# Altium schematic symbol library burr-brown.SCHLIB: 341 symbols (part 1 of 3)
Pins are listed as number, name and electrical type; pins without a type are passive.

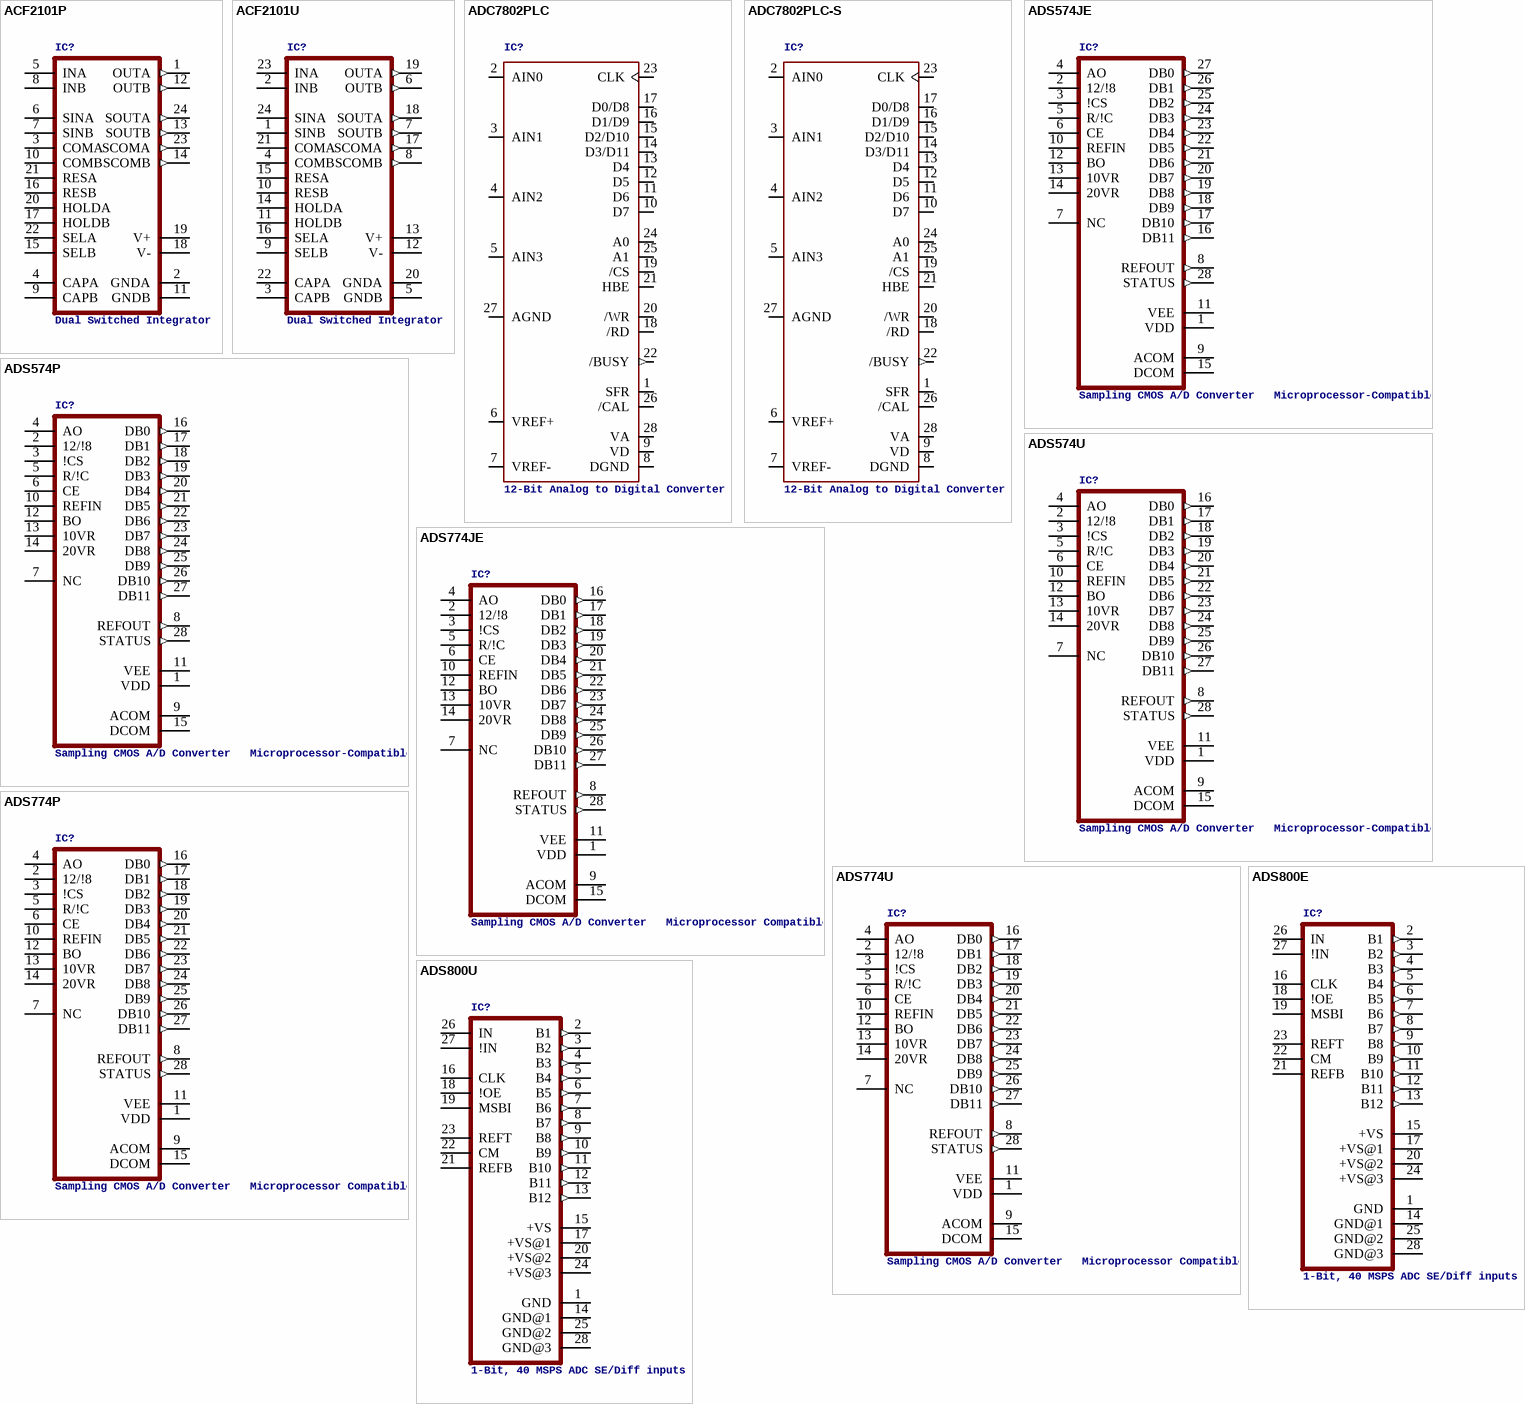
[diagram p0: symbols ACF2101P to ADS800U]

## ACF2101P
designator IC?, comment Dual Switched Integrator
OC_FARNELL: unknown; OC_NEWARK: unknown
footprint DIL24-3
pins: 1 OUTA (out), 2 GNDA (power), 3 COMA, 4 CAPA, 5 INA, 6 SINA, 7 SINB, 8 INB, 9 CAPB, 10 COMB, 11 GNDB (power), 12 OUTB (out), 13 SOUTB (out), 14 SCOMB (out), 15 SELB, 16 RESB, 17 HOLDB, 18 V- (power), 19 V+ (power), 20 HOLDA, 21 RESA, 22 SELA, 23 SCOMA (out), 24 SOUTA (out)

## ACF2101U
designator IC?, comment Dual Switched Integrator
MPN: ACF2101BU.; OC_FARNELL: 1206857; OC_NEWARK: 34R6526
footprint SO24L
pins: 1 SINB, 2 INB, 3 CAPB, 4 COMB, 5 GNDB (power), 6 OUTB (out), 7 SOUTB (out), 8 SCOMB (out), 9 SELB, 10 RESB, 11 HOLDB, 12 V- (power), 13 V+ (power), 14 HOLDA, 15 RESA, 16 SELA, 17 SCOMA (out), 18 SOUTA (out), 19 OUTA (out), 20 GNDA (power), 21 COMA, 22 CAPA, 23 INA, 24 SINA

## ADC7802PLC
designator IC?, comment 12-Bit Analog to Digital Converter
OC_FARNELL: unknown; OC_NEWARK: unknown
footprint PLCC28
pins: 1 SFR, 2 AIN0, 3 AIN1, 4 AIN2, 5 AIN3, 6 VREF+, 7 VREF-, 8 DGND, 9 VD, 10 D7 (hiz), 11 D6 (hiz), 12 D5 (hiz), 13 D4 (hiz), 14 D3/D11 (hiz), 15 D2/D10 (hiz), 16 D1/D9 (hiz), 17 D0/D8 (hiz), 18 /RD, 19 /CS, 20 /WR, 21 HBE, 22 /BUSY (out), 23 CLK, 24 A0, 25 A1, 26 /CAL, 27 AGND, 28 VA

## ADC7802PLC-S
designator IC?, comment 12-Bit Analog to Digital Converter
OC_FARNELL: unknown; OC_NEWARK: unknown
footprint PLCC-S28
pins: 1 SFR, 2 AIN0, 3 AIN1, 4 AIN2, 5 AIN3, 6 VREF+, 7 VREF-, 8 DGND, 9 VD, 10 D7 (hiz), 11 D6 (hiz), 12 D5 (hiz), 13 D4 (hiz), 14 D3/D11 (hiz), 15 D2/D10 (hiz), 16 D1/D9 (hiz), 17 D0/D8 (hiz), 18 /RD, 19 /CS, 20 /WR, 21 HBE, 22 /BUSY (out), 23 CLK, 24 A0, 25 A1, 26 /CAL, 27 AGND, 28 VA

## ADS574JE
designator IC?, comment Sampling CMOS A/D Converter   Microprocessor-Compatible
MPN: ADS574JE; OC_FARNELL: 1214401; OC_NEWARK: 01M6815
footprint DIL28-3
pins: 1 VDD (power), 2 12/!8, 3 !CS, 4 AO, 5 R/!C, 6 CE, 7 NC, 8 REFOUT (out), 9 ACOM (power), 10 REFIN, 11 VEE (power), 12 BO, 13 10VR, 14 20VR, 15 DCOM (power), 16 DB11 (out), 17 DB10 (out), 18 DB9 (out), 19 DB8 (out), 20 DB7 (out), 21 DB6 (out), 22 DB5 (out), 23 DB4 (out), 24 DB3 (out), 25 DB2 (out), 26 DB1 (out), 27 DB0 (out), 28 STATUS (out)

## ADS574P
designator IC?, comment Sampling CMOS A/D Converter   Microprocessor-Compatible
MPN: ADS574JP; MF: TEXAS INSTRUMENT CONNECTORS; OC_FARNELL: 1311734; OC_NEWARK: 88K1031
footprint DIL28
pins: 1 VDD (power), 2 12/!8, 3 !CS, 4 AO, 5 R/!C, 6 CE, 7 NC, 8 REFOUT (out), 9 ACOM (power), 10 REFIN, 11 VEE (power), 12 BO, 13 10VR, 14 20VR, 15 DCOM (power), 16 DB0 (out), 17 DB1 (out), 18 DB2 (out), 19 DB3 (out), 20 DB4 (out), 21 DB5 (out), 22 DB6 (out), 23 DB7 (out), 24 DB8 (out), 25 DB9 (out), 26 DB10 (out), 27 DB11 (out), 28 STATUS (out)

## ADS574U
designator IC?, comment Sampling CMOS A/D Converter   Microprocessor-Compatible
OC_FARNELL: unknown; OC_NEWARK: unknown
footprint SO28-3
pins: 1 VDD (power), 2 12/!8, 3 !CS, 4 AO, 5 R/!C, 6 CE, 7 NC, 8 REFOUT (out), 9 ACOM (power), 10 REFIN, 11 VEE (power), 12 BO, 13 10VR, 14 20VR, 15 DCOM (power), 16 DB0 (out), 17 DB1 (out), 18 DB2 (out), 19 DB3 (out), 20 DB4 (out), 21 DB5 (out), 22 DB6 (out), 23 DB7 (out), 24 DB8 (out), 25 DB9 (out), 26 DB10 (out), 27 DB11 (out), 28 STATUS (out)

## ADS774JE
designator IC?, comment Sampling CMOS A/D Converter   Microprocessor Compatible
MPN: ADS774JE; MF: TEXAS INSTRUMENTS; OC_FARNELL: 1509506; OC_NEWARK: 74C7051
footprint DIL28-3
pins: 1 VDD (power), 2 12/!8, 3 !CS, 4 AO, 5 R/!C, 6 CE, 7 NC, 8 REFOUT (out), 9 ACOM (power), 10 REFIN, 11 VEE (power), 12 BO, 13 10VR, 14 20VR, 15 DCOM (power), 16 DB0 (out), 17 DB1 (out), 18 DB2 (out), 19 DB3 (out), 20 DB4 (out), 21 DB5 (out), 22 DB6 (out), 23 DB7 (out), 24 DB8 (out), 25 DB9 (out), 26 DB10 (out), 27 DB11 (out), 28 STATUS (out)

## ADS774P
designator IC?, comment Sampling CMOS A/D Converter   Microprocessor Compatible
MPN: ADS774JP; MF: TEXAS INSTRUMENT CONNECTORS; OC_FARNELL: 1287416; OC_NEWARK: 74C7052
footprint DIL28
pins: 1 VDD (power), 2 12/!8, 3 !CS, 4 AO, 5 R/!C, 6 CE, 7 NC, 8 REFOUT (out), 9 ACOM (power), 10 REFIN, 11 VEE (power), 12 BO, 13 10VR, 14 20VR, 15 DCOM (power), 16 DB0 (out), 17 DB1 (out), 18 DB2 (out), 19 DB3 (out), 20 DB4 (out), 21 DB5 (out), 22 DB6 (out), 23 DB7 (out), 24 DB8 (out), 25 DB9 (out), 26 DB10 (out), 27 DB11 (out), 28 STATUS (out)

## ADS774U
designator IC?, comment Sampling CMOS A/D Converter   Microprocessor Compatible
MPN: ADS774JU; OC_FARNELL: 1287417; OC_NEWARK: 25M7542
footprint SO28-3
pins: 1 VDD (power), 2 12/!8, 3 !CS, 4 AO, 5 R/!C, 6 CE, 7 NC, 8 REFOUT (out), 9 ACOM (power), 10 REFIN, 11 VEE (power), 12 BO, 13 10VR, 14 20VR, 15 DCOM (power), 16 DB0 (out), 17 DB1 (out), 18 DB2 (out), 19 DB3 (out), 20 DB4 (out), 21 DB5 (out), 22 DB6 (out), 23 DB7 (out), 24 DB8 (out), 25 DB9 (out), 26 DB10 (out), 27 DB11 (out), 28 STATUS (out)

## ADS800E
designator IC?, comment 1-Bit, 40 MSPS ADC SE/Diff inputs
OC_FARNELL: unknown; OC_NEWARK: unknown
footprint SSOP28BU
pins: 1 GND (power), 2 B1 (out), 3 B2 (out), 4 B3 (out), 5 B4 (out), 6 B5 (out), 7 B6 (out), 8 B7 (out), 9 B8 (out), 10 B9 (out), 11 B10 (out), 12 B11 (out), 13 B12 (out), 14 GND@1 (power), 15 +VS (power), 16 CLK, 17 +VS@1 (power), 18 !OE, 19 MSBI, 20 +VS@2 (power), 21 REFB, 22 CM, 23 REFT, 24 +VS@3 (power), 25 GND@2 (power), 26 IN, 27 !IN, 28 GND@3 (power)

## ADS800U
designator IC?, comment 1-Bit, 40 MSPS ADC SE/Diff inputs
MPN: ADS800U; MF: TEXAS INSTRUMENTS; OC_FARNELL: unknown; OC_NEWARK: 35C1569
footprint SO28-3
pins: 1 GND (power), 2 B1 (out), 3 B2 (out), 4 B3 (out), 5 B4 (out), 6 B5 (out), 7 B6 (out), 8 B7 (out), 9 B8 (out), 10 B9 (out), 11 B10 (out), 12 B11 (out), 13 B12 (out), 14 GND@1 (power), 15 +VS (power), 16 CLK, 17 +VS@1 (power), 18 !OE, 19 MSBI, 20 +VS@2 (power), 21 REFB, 22 CM, 23 REFT, 24 +VS@3 (power), 25 GND@2 (power), 26 IN, 27 !IN, 28 GND@3 (power)

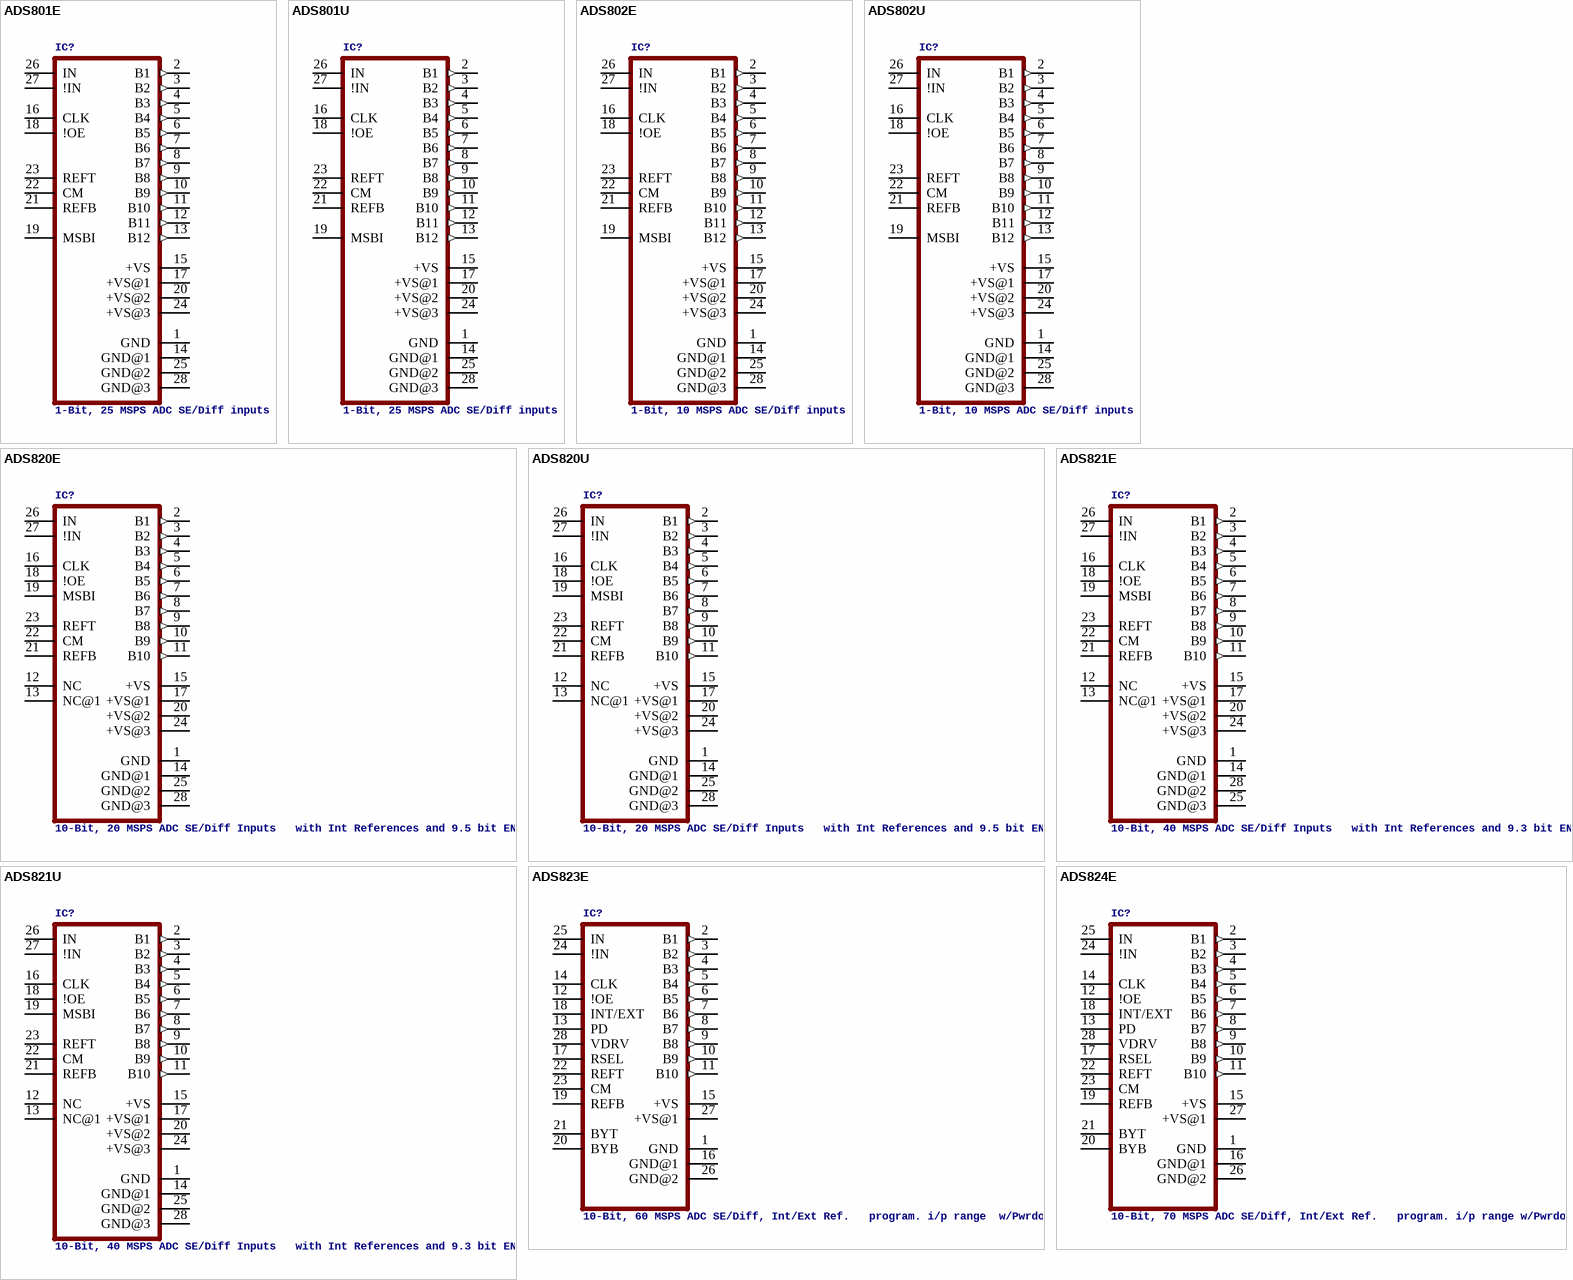
[diagram p1: symbols ADS801E to ADS824E]

## ADS801E
designator IC?, comment 1-Bit, 25 MSPS ADC SE/Diff inputs
OC_FARNELL: unknown; OC_NEWARK: unknown
footprint SSOP28BU
pins: 1 GND (power), 2 B1 (out), 3 B2 (out), 4 B3 (out), 5 B4 (out), 6 B5 (out), 7 B6 (out), 8 B7 (out), 9 B8 (out), 10 B9 (out), 11 B10 (out), 12 B11 (out), 13 B12 (out), 14 GND@1 (power), 15 +VS (power), 16 CLK, 17 +VS@1 (power), 18 !OE, 19 MSBI, 20 +VS@2 (power), 21 REFB, 22 CM, 23 REFT, 24 +VS@3 (power), 25 GND@2 (power), 26 IN, 27 !IN, 28 GND@3 (power)

## ADS801U
designator IC?, comment 1-Bit, 25 MSPS ADC SE/Diff inputs
MPN: ADS801U; MF: TEXAS INSTRUMENTS; OC_FARNELL: 4808320; OC_NEWARK: 35C1570
footprint SO28-3
pins: 1 GND (power), 2 B1 (out), 3 B2 (out), 4 B3 (out), 5 B4 (out), 6 B5 (out), 7 B6 (out), 8 B7 (out), 9 B8 (out), 10 B9 (out), 11 B10 (out), 12 B11 (out), 13 B12 (out), 14 GND@1 (power), 15 +VS (power), 16 CLK, 17 +VS@1 (power), 18 !OE, 19 MSBI, 20 +VS@2 (power), 21 REFB, 22 CM, 23 REFT, 24 +VS@3 (power), 25 GND@2 (power), 26 IN, 27 !IN, 28 GND@3 (power)

## ADS802E
designator IC?, comment 1-Bit, 10 MSPS ADC SE/Diff inputs
OC_FARNELL: unknown; OC_NEWARK: unknown
footprint SSOP28BU
pins: 1 GND (power), 2 B1 (out), 3 B2 (out), 4 B3 (out), 5 B4 (out), 6 B5 (out), 7 B6 (out), 8 B7 (out), 9 B8 (out), 10 B9 (out), 11 B10 (out), 12 B11 (out), 13 B12 (out), 14 GND@1 (power), 15 +VS (power), 16 CLK, 17 +VS@1 (power), 18 !OE, 19 MSBI, 20 +VS@2 (power), 21 REFB, 22 CM, 23 REFT, 24 +VS@3 (power), 25 GND@2 (power), 26 IN, 27 !IN, 28 GND@3 (power)

## ADS802U
designator IC?, comment 1-Bit, 10 MSPS ADC SE/Diff inputs
MPN: ADS802U; OC_FARNELL: unknown; OC_NEWARK: 16C1136
footprint SO28-3
pins: 1 GND (power), 2 B1 (out), 3 B2 (out), 4 B3 (out), 5 B4 (out), 6 B5 (out), 7 B6 (out), 8 B7 (out), 9 B8 (out), 10 B9 (out), 11 B10 (out), 12 B11 (out), 13 B12 (out), 14 GND@1 (power), 15 +VS (power), 16 CLK, 17 +VS@1 (power), 18 !OE, 19 MSBI, 20 +VS@2 (power), 21 REFB, 22 CM, 23 REFT, 24 +VS@3 (power), 25 GND@2 (power), 26 IN, 27 !IN, 28 GND@3 (power)

## ADS820E
designator IC?, comment 10-Bit, 20 MSPS ADC SE/Diff Inputs   with Int References and 9.5 bit ENOB
OC_FARNELL: unknown; OC_NEWARK: unknown
footprint SSOP28BU
pins: 1 GND (power), 2 B1 (out), 3 B2 (out), 4 B3 (out), 5 B4 (out), 6 B5 (out), 7 B6 (out), 8 B7 (out), 9 B8 (out), 10 B9 (out), 11 B10 (out), 12 NC, 13 NC@1, 14 GND@1 (power), 15 +VS (power), 16 CLK, 17 +VS@1 (power), 18 !OE, 19 MSBI, 20 +VS@2 (power), 21 REFB, 22 CM, 23 REFT, 24 +VS@3 (power), 25 GND@2 (power), 26 IN, 27 !IN, 28 GND@3 (power)

## ADS820U
designator IC?, comment 10-Bit, 20 MSPS ADC SE/Diff Inputs   with Int References and 9.5 bit ENOB
MPN: ADS820U; MF: TEXAS INSTRUMENT CONNECTORS; OC_FARNELL: 1214452; OC_NEWARK: 74C7210
footprint SO28-3
pins: 1 GND (power), 2 B1 (out), 3 B2 (out), 4 B3 (out), 5 B4 (out), 6 B5 (out), 7 B6 (out), 8 B7 (out), 9 B8 (out), 10 B9 (out), 11 B10 (out), 12 NC, 13 NC@1, 14 GND@1 (power), 15 +VS (power), 16 CLK, 17 +VS@1 (power), 18 !OE, 19 MSBI, 20 +VS@2 (power), 21 REFB, 22 CM, 23 REFT, 24 +VS@3 (power), 25 GND@2 (power), 26 IN, 27 !IN, 28 GND@3 (power)

## ADS821E
designator IC?, comment 10-Bit, 40 MSPS ADC SE/Diff Inputs   with Int References and 9.3 bit ENOB
OC_FARNELL: unknown; OC_NEWARK: unknown
footprint SSOP28BU
pins: 1 GND (power), 2 B1 (out), 3 B2 (out), 4 B3 (out), 5 B4 (out), 6 B5 (out), 7 B6 (out), 8 B7 (out), 9 B8 (out), 10 B9 (out), 11 B10 (out), 12 NC, 13 NC@1, 14 GND@1 (power), 15 +VS (power), 16 CLK, 17 +VS@1 (power), 18 !OE, 19 MSBI, 20 +VS@2 (power), 21 REFB, 22 CM, 23 REFT, 24 +VS@3 (power), 25 GND@3 (power), 26 IN, 27 !IN, 28 GND@2 (power)

## ADS821U
designator IC?, comment 10-Bit, 40 MSPS ADC SE/Diff Inputs   with Int References and 9.3 bit ENOB
MPN: ADS821U; MF: TEXAS INSTRUMENT CONNECTORS; OC_FARNELL: 1509519; OC_NEWARK: 35C1575
footprint SO28-3
pins: 1 GND (power), 2 B1 (out), 3 B2 (out), 4 B3 (out), 5 B4 (out), 6 B5 (out), 7 B6 (out), 8 B7 (out), 9 B8 (out), 10 B9 (out), 11 B10 (out), 12 NC, 13 NC@1, 14 GND@1 (power), 15 +VS (power), 16 CLK, 17 +VS@1 (power), 18 !OE, 19 MSBI, 20 +VS@2 (power), 21 REFB, 22 CM, 23 REFT, 24 +VS@3 (power), 25 GND@2 (power), 26 IN, 27 !IN, 28 GND@3 (power)

## ADS823E
designator IC?, comment 10-Bit, 60 MSPS ADC SE/Diff, Int/Ext Ref.   program. i/p range  w/Pwrdown
MPN: ADS823E; MF: TEXAS INSTRUMENTS; OC_FARNELL: unknown; OC_NEWARK: 35C1576
footprint SSOP28BU
pins: 1 GND (power), 2 B1 (out), 3 B2 (out), 4 B3 (out), 5 B4 (out), 6 B5 (out), 7 B6 (out), 8 B7 (out), 9 B8 (out), 10 B9 (out), 11 B10 (out), 12 !OE, 13 PD, 14 CLK, 15 +VS (power), 16 GND@1 (power), 17 RSEL, 18 INT/EXT, 19 REFB, 20 BYB, 21 BYT, 22 REFT, 23 CM, 24 !IN, 25 IN, 26 GND@2 (power), 27 +VS@1 (power), 28 VDRV

## ADS824E
designator IC?, comment 10-Bit, 70 MSPS ADC SE/Diff, Int/Ext Ref.   program. i/p range w/Pwrdown
OC_FARNELL: unknown; OC_NEWARK: unknown
footprint SSOP28BU
pins: 1 GND (power), 2 B1 (out), 3 B2 (out), 4 B3 (out), 5 B4 (out), 6 B5 (out), 7 B6 (out), 8 B7 (out), 9 B8 (out), 10 B9 (out), 11 B10 (out), 12 !OE, 13 PD, 14 CLK, 15 +VS (power), 16 GND@1 (power), 17 RSEL, 18 INT/EXT, 19 REFB, 20 BYB, 21 BYT, 22 REFT, 23 CM, 24 !IN, 25 IN, 26 GND@2 (power), 27 +VS@1 (power), 28 VDRV

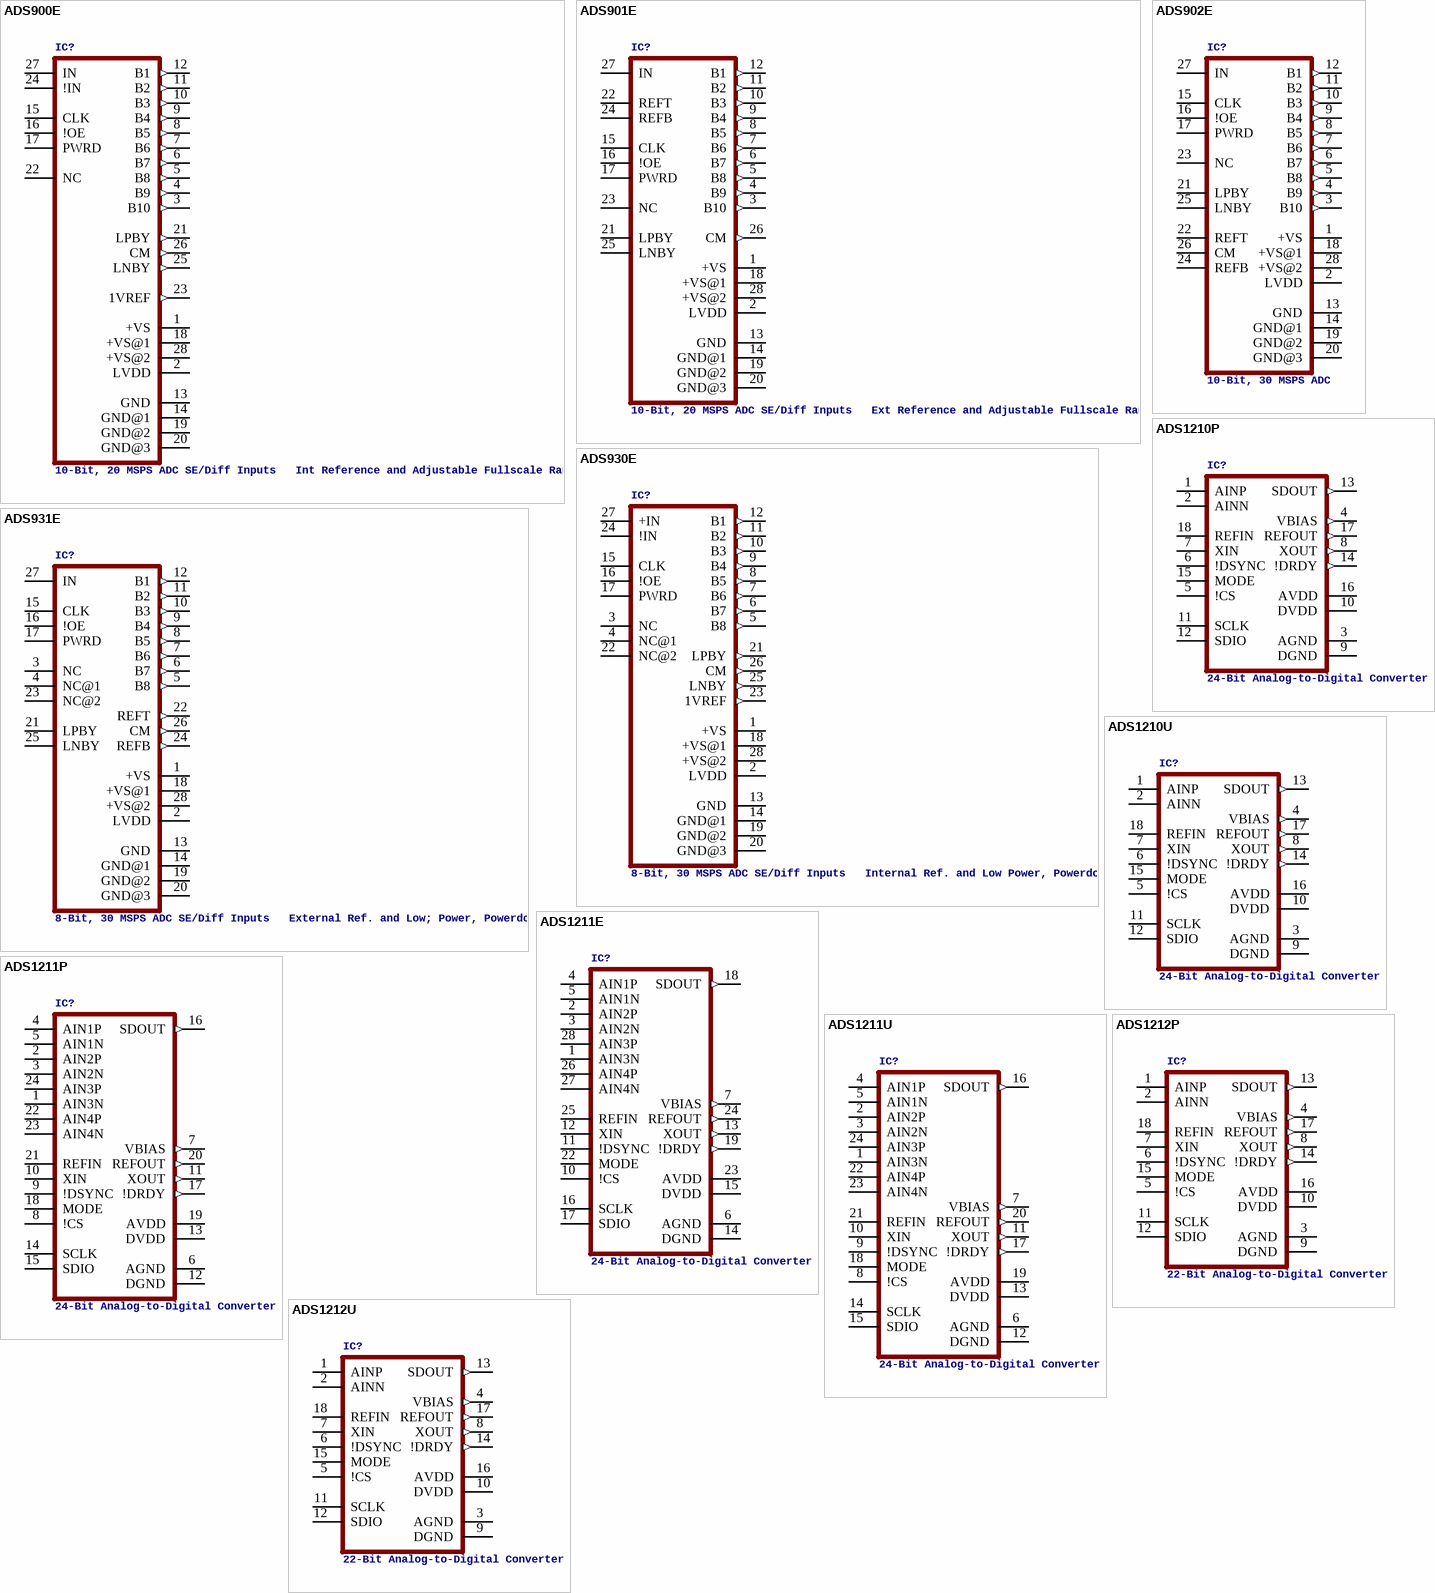
[diagram p2: symbols ADS900E to ADS1212U]

## ADS900E
designator IC?, comment 10-Bit, 20 MSPS ADC SE/Diff Inputs   Int Reference and Adjustable Fullscale Range
MPN: ADS900E; MF: TEXAS INSTRUMENT CONNECTORS; OC_FARNELL: 1459301; OC_NEWARK: 74C7264
footprint SSOP28BU
pins: 1 +VS (power), 2 LVDD (power), 3 B10 (out), 4 B9 (out), 5 B8 (out), 6 B7 (out), 7 B6 (out), 8 B5 (out), 9 B4 (out), 10 B3 (out), 11 B2 (out), 12 B1 (out), 13 GND (power), 14 GND@1 (power), 15 CLK, 16 !OE, 17 PWRD, 18 +VS@1 (power), 19 GND@2 (power), 20 GND@3 (power), 21 LPBY (out), 22 NC, 23 1VREF (out), 24 !IN, 25 LNBY (out), 26 CM (out), 27 IN, 28 +VS@2 (power)

## ADS901E
designator IC?, comment 10-Bit, 20 MSPS ADC SE/Diff Inputs   Ext Reference and Adjustable Fullscale Range
MPN: ADS901E; MF: TEXAS INSTRUMENT CONNECTORS; OC_FARNELL: 1509526; OC_NEWARK: 35C1591
footprint SSOP28BU
pins: 1 +VS (power), 2 LVDD (power), 3 B10 (out), 4 B9 (out), 5 B8 (out), 6 B7 (out), 7 B6 (out), 8 B5 (out), 9 B4 (out), 10 B3 (out), 11 B2 (out), 12 B1 (out), 13 GND (power), 14 GND@1 (power), 15 CLK, 16 !OE, 17 PWRD, 18 +VS@1 (power), 19 GND@2 (power), 20 GND@3 (power), 21 LPBY, 22 REFT, 23 NC, 24 REFB, 25 LNBY, 26 CM (out), 27 IN, 28 +VS@2 (power)

## ADS902E
designator IC?, comment 10-Bit, 30 MSPS ADC
OC_FARNELL: unknown; OC_NEWARK: unknown
footprint SSOP28BU
pins: 1 +VS (power), 2 LVDD (power), 3 B10 (out), 4 B9 (out), 5 B8 (out), 6 B7 (out), 7 B6 (out), 8 B5 (out), 9 B4 (out), 10 B3 (out), 11 B2 (out), 12 B1 (out), 13 GND (power), 14 GND@1 (power), 15 CLK, 16 !OE, 17 PWRD, 18 +VS@1 (power), 19 GND@2 (power), 20 GND@3 (power), 21 LPBY, 22 REFT, 23 NC, 24 REFB, 25 LNBY, 26 CM, 27 IN, 28 +VS@2 (power)

## ADS930E
designator IC?, comment 8-Bit, 30 MSPS ADC SE/Diff Inputs   Internal Ref. and Low Power, Powerdown
MPN: AD9280ARSZ; OC_FARNELL: 9603727; OC_NEWARK: 19M1009
footprint SSOP28BU
pins: 1 +VS (power), 2 LVDD (power), 3 NC, 4 NC@1, 5 B8 (out), 6 B7 (out), 7 B6 (out), 8 B5 (out), 9 B4 (out), 10 B3 (out), 11 B2 (out), 12 B1 (out), 13 GND (power), 14 GND@1 (power), 15 CLK, 16 !OE, 17 PWRD, 18 +VS@1 (power), 19 GND@2 (power), 20 GND@3 (power), 21 LPBY (out), 22 NC@2, 23 1VREF (out), 24 !IN, 25 LNBY (out), 26 CM (out), 27 +IN, 28 +VS@2 (power)

## ADS931E
designator IC?, comment 8-Bit, 30 MSPS ADC SE/Diff Inputs   External Ref. and Low; Power, Powerdown
MPN: ADS931E..; OC_FARNELL: 1648611; OC_NEWARK: 80P3665
footprint SSOP28BU
pins: 1 +VS (power), 2 LVDD (power), 3 NC, 4 NC@1, 5 B8 (out), 6 B7 (out), 7 B6 (out), 8 B5 (out), 9 B4 (out), 10 B3 (out), 11 B2 (out), 12 B1 (out), 13 GND (power), 14 GND@1 (power), 15 CLK, 16 !OE, 17 PWRD, 18 +VS@1 (power), 19 GND@2 (power), 20 GND@3 (power), 21 LPBY, 22 REFT (out), 23 NC@2, 24 REFB (out), 25 LNBY, 26 CM (out), 27 IN, 28 +VS@2 (power)

## ADS1210P
designator IC?, comment 24-Bit Analog-to-Digital Converter
MPN: ADS1210P; MF: TEXAS INSTRUMENTS; OC_FARNELL: 1312336; OC_NEWARK: 96K4580
footprint DIL18
pins: 1 AINP, 2 AINN, 3 AGND (power), 4 VBIAS (out), 5 !CS, 6 !DSYNC, 7 XIN, 8 XOUT (out), 9 DGND (power), 10 DVDD (power), 11 SCLK, 12 SDIO, 13 SDOUT (out), 14 !DRDY (out), 15 MODE, 16 AVDD (power), 17 REFOUT (out), 18 REFIN

## ADS1210U
designator IC?, comment 24-Bit Analog-to-Digital Converter
MPN: ADS1210U; MF: TEXAS INSTRUMENTS; OC_FARNELL: 1097511; OC_NEWARK: 74K3627
footprint SO18L
pins: 1 AINP, 2 AINN, 3 AGND (power), 4 VBIAS (out), 5 !CS, 6 !DSYNC, 7 XIN, 8 XOUT (out), 9 DGND (power), 10 DVDD (power), 11 SCLK, 12 SDIO, 13 SDOUT (out), 14 !DRDY (out), 15 MODE, 16 AVDD (power), 17 REFOUT (out), 18 REFIN

## ADS1211E
designator IC?, comment 24-Bit Analog-to-Digital Converter
MPN: ADS1211E; MF: TEXAS INSTRUMENT CONNECTORS; OC_FARNELL: unknown; OC_NEWARK: 74C6976
footprint SSOP28DL
pins: 1 AIN3N, 2 AIN2P, 3 AIN2N, 4 AIN1P, 5 AIN1N, 6 AGND (power), 7 VBIAS (out), 10 !CS, 11 !DSYNC, 12 XIN, 13 XOUT (out), 14 DGND (power), 15 DVDD (power), 16 SCLK, 17 SDIO, 18 SDOUT (out), 19 !DRDY (out), 22 MODE, 23 AVDD (power), 24 REFOUT (out), 25 REFIN, 26 AIN4P, 27 AIN4N, 28 AIN3P

## ADS1211P
designator IC?, comment 24-Bit Analog-to-Digital Converter
MPN: ADS1211P; MF: TEXAS INSTRUMENTS; OC_FARNELL: 1219430; OC_NEWARK: 96K2329
footprint DIL24-3
pins: 1 AIN3N, 2 AIN2P, 3 AIN2N, 4 AIN1P, 5 AIN1N, 6 AGND (power), 7 VBIAS (out), 8 !CS, 9 !DSYNC, 10 XIN, 11 XOUT (out), 12 DGND (power), 13 DVDD (power), 14 SCLK, 15 SDIO, 16 SDOUT (out), 17 !DRDY (out), 18 MODE, 19 AVDD (power), 20 REFOUT (out), 21 REFIN, 22 AIN4P, 23 AIN4N, 24 AIN3P

## ADS1211U
designator IC?, comment 24-Bit Analog-to-Digital Converter
MPN: ADS1211U..; MF: FARNELL; OC_FARNELL: 9324070; OC_NEWARK: 37K8944
footprint SO24L
pins: 1 AIN3N, 2 AIN2P, 3 AIN2N, 4 AIN1P, 5 AIN1N, 6 AGND (power), 7 VBIAS (out), 8 !CS, 9 !DSYNC, 10 XIN, 11 XOUT (out), 12 DGND (power), 13 DVDD (power), 14 SCLK, 15 SDIO, 16 SDOUT (out), 17 !DRDY (out), 18 MODE, 19 AVDD (power), 20 REFOUT (out), 21 REFIN, 22 AIN4P, 23 AIN4N, 24 AIN3P

## ADS1212P
designator IC?, comment 22-Bit Analog-to-Digital Converter
MPN: ADS1212P; MF: TEXAS INSTRUMENT CONNECTORS; OC_FARNELL: unknown; OC_NEWARK: 96K4581
footprint DIL18
pins: 1 AINP, 2 AINN, 3 AGND (power), 4 VBIAS (out), 5 !CS, 6 !DSYNC, 7 XIN, 8 XOUT (out), 9 DGND (power), 10 DVDD (power), 11 SCLK, 12 SDIO, 13 SDOUT (out), 14 !DRDY (out), 15 MODE, 16 AVDD (power), 17 REFOUT (out), 18 REFIN

## ADS1212U
designator IC?, comment 22-Bit Analog-to-Digital Converter
MPN: ADS1212U; OC_FARNELL: 1459252; OC_NEWARK: 61M4770
footprint SO18L
pins: 1 AINP, 2 AINN, 3 AGND (power), 4 VBIAS (out), 5 !CS, 6 !DSYNC, 7 XIN, 8 XOUT (out), 9 DGND (power), 10 DVDD (power), 11 SCLK, 12 SDIO, 13 SDOUT (out), 14 !DRDY (out), 15 MODE, 16 AVDD (power), 17 REFOUT (out), 18 REFIN

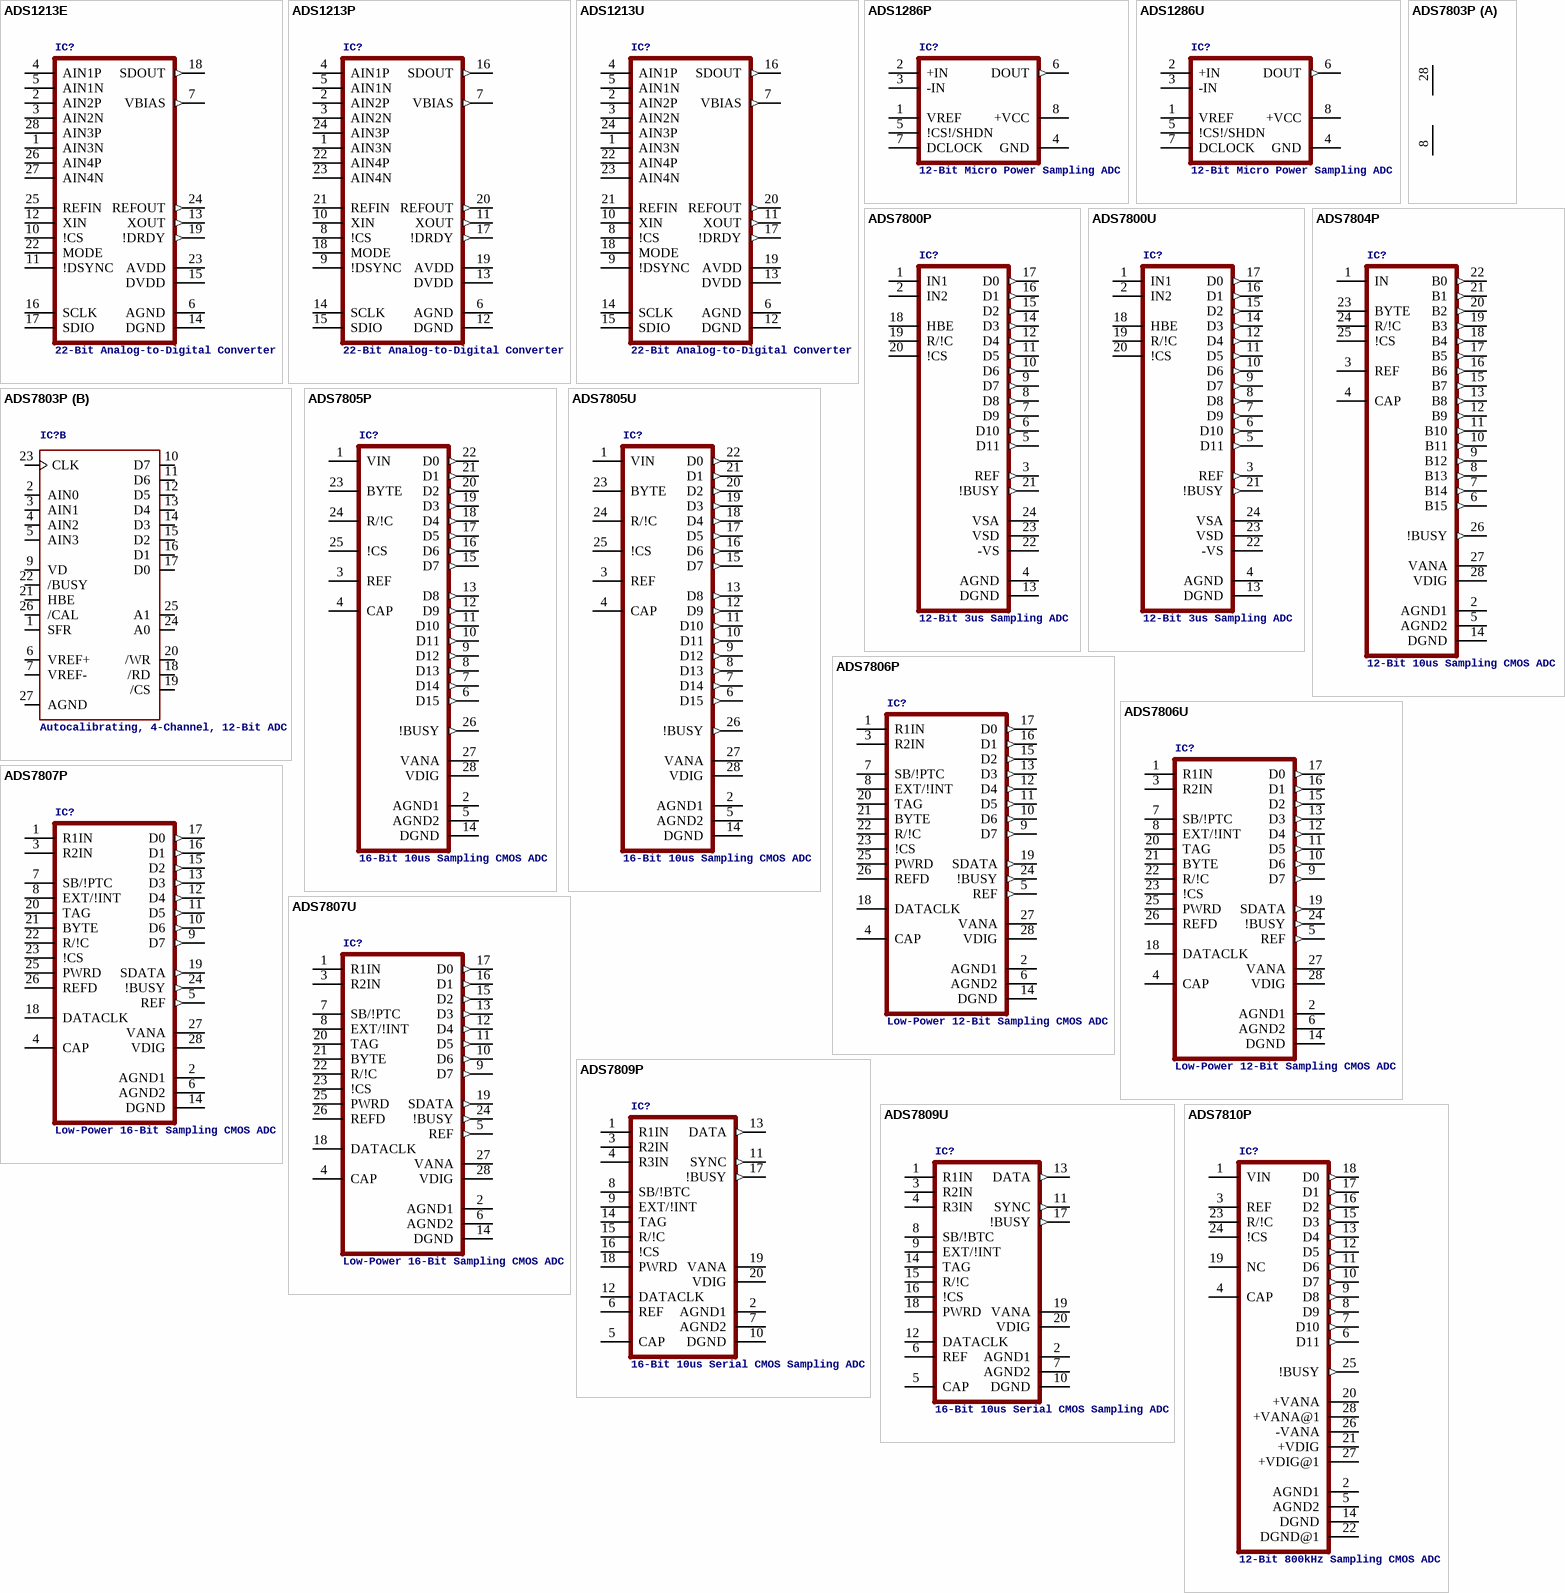
[diagram p3: symbols ADS1213E to ADS7810P]

## ADS1213E
designator IC?, comment 22-Bit Analog-to-Digital Converter
MPN: ADS1213E; MF: TEXAS INSTRUMENTS; OC_FARNELL: unknown; OC_NEWARK: 74C6980
footprint SSOP28BU
pins: 1 AIN3N, 2 AIN2P, 3 AIN2N, 4 AIN1P, 5 AIN1N, 6 AGND (power), 7 VBIAS (out), 10 !CS, 11 !DSYNC, 12 XIN, 13 XOUT (out), 14 DGND (power), 15 DVDD (power), 16 SCLK, 17 SDIO, 18 SDOUT (out), 19 !DRDY (out), 22 MODE, 23 AVDD (power), 24 REFOUT (out), 25 REFIN, 26 AIN4P, 27 AIN4N, 28 AIN3P

## ADS1213P
designator IC?, comment 22-Bit Analog-to-Digital Converter
MPN: ADS1213P; MF: TEXAS INSTRUMENTS; OC_FARNELL: unknown; OC_NEWARK: 14M9330
footprint DIL24-3
pins: 1 AIN3N, 2 AIN2P, 3 AIN2N, 4 AIN1P, 5 AIN1N, 6 AGND (power), 7 VBIAS (out), 8 !CS, 9 !DSYNC, 10 XIN, 11 XOUT (out), 12 DGND (power), 13 DVDD (power), 14 SCLK, 15 SDIO, 16 SDOUT (out), 17 !DRDY (out), 18 MODE, 19 AVDD (power), 20 REFOUT (out), 21 REFIN, 22 AIN4P, 23 AIN4N, 24 AIN3P

## ADS1213U
designator IC?, comment 22-Bit Analog-to-Digital Converter
MPN: ADS1213U; MF: TEXAS INSTRUMENTS; OC_FARNELL: 1234905; OC_NEWARK: 35C1517
footprint SO24L
pins: 1 AIN3N, 2 AIN2P, 3 AIN2N, 4 AIN1P, 5 AIN1N, 6 AGND (power), 7 VBIAS (out), 8 !CS, 9 !DSYNC, 10 XIN, 11 XOUT (out), 12 DGND (power), 13 DVDD (power), 14 SCLK, 15 SDIO, 16 SDOUT (out), 17 !DRDY (out), 18 MODE, 19 AVDD (power), 20 REFOUT (out), 21 REFIN, 22 AIN4P, 23 AIN4N, 24 AIN3P

## ADS1286P
designator IC?, comment 12-Bit Micro Power Sampling ADC
MPN: ADS1286P; MF: TEXAS INSTRUMENT CONNECTORS; OC_FARNELL: 1214453; OC_NEWARK: 74C7011
footprint DIL08
pins: 1 VREF, 2 +IN, 3 -IN, 4 GND (power), 5 !CS!/SHDN, 6 DOUT (out), 7 DCLOCK, 8 +VCC (power)

## ADS1286U
designator IC?, comment 12-Bit Micro Power Sampling ADC
MPN: ADS1286U; MF: TEXAS INSTRUMENTS; OC_FARNELL: 1106203; OC_NEWARK: 80K5544
footprint SO08
pins: 1 VREF, 2 +IN, 3 -IN, 4 GND (power), 5 !CS!/SHDN, 6 DOUT (out), 7 DCLOCK, 8 +VCC (power)

## ADS7800P
designator IC?, comment 12-Bit 3us Sampling ADC
OC_FARNELL: unknown; OC_NEWARK: unknown
footprint DIL28-3
pins: 1 IN1, 2 IN2, 3 REF (out), 4 AGND (power), 5 D11 (out), 6 D10 (out), 7 D9 (out), 8 D8 (out), 9 D7 (out), 10 D6 (out), 11 D5 (out), 12 D4 (out), 13 DGND (power), 14 D3 (out), 15 D2 (out), 16 D1 (out), 17 D0 (out), 18 HBE, 19 R/!C, 20 !CS, 21 !BUSY (out), 22 -VS (power), 23 VSD (power), 24 VSA (power)

## ADS7800U
designator IC?, comment 12-Bit 3us Sampling ADC
OC_FARNELL: unknown; OC_NEWARK: unknown
footprint SO28-3
pins: 1 IN1, 2 IN2, 3 REF (out), 4 AGND (power), 5 D11 (out), 6 D10 (out), 7 D9 (out), 8 D8 (out), 9 D7 (out), 10 D6 (out), 11 D5 (out), 12 D4 (out), 13 DGND (power), 14 D3 (out), 15 D2 (out), 16 D1 (out), 17 D0 (out), 18 HBE, 19 R/!C, 20 !CS, 21 !BUSY (out), 22 -VS (power), 23 VSD (power), 24 VSA (power)

## ADS7803P
designator IC?, comment Autocalibrating, 4-Channel, 12-Bit ADC
OC_FARNELL: unknown; OC_NEWARK: unknown
footprint DIL28
part A pins: 8 GND (power), 28 VCC (power)
part B pins: 1 SFR, 2 AIN0, 3 AIN1, 4 AIN2, 5 AIN3, 6 VREF+, 7 VREF-, 9 VD, 10 D7 (hiz), 11 D6 (hiz), 12 D5 (hiz), 13 D4 (hiz), 14 D3 (hiz), 15 D2 (hiz), 16 D1 (hiz), 17 D0 (hiz), 18 /RD, 19 /CS, 20 /WR, 21 HBE, 22 /BUSY, 23 CLK, 24 A0, 25 A1, 26 /CAL, 27 AGND (power)

## ADS7804P
designator IC?, comment 12-Bit 10us Sampling CMOS ADC
MPN: ADS7804P; MF: TEXAS INSTRUMENTS; OC_FARNELL: unknown; OC_NEWARK: 35C1525
footprint DIL28-3
pins: 1 IN, 2 AGND1 (power), 3 REF, 4 CAP, 5 AGND2 (power), 6 B15 (out), 7 B14 (out), 8 B13 (out), 9 B12 (out), 10 B11 (out), 11 B10 (out), 12 B9 (out), 13 B8 (out), 14 DGND (power), 15 B7 (out), 16 B6 (out), 17 B5 (out), 18 B4 (out), 19 B3 (out), 20 B2 (out), 21 B1 (out), 22 B0 (out), 23 BYTE, 24 R/!C, 25 !CS, 26 !BUSY (out), 27 VANA (power), 28 VDIG (power)

## ADS7805P
designator IC?, comment 16-Bit 10us Sampling CMOS ADC
MPN: ADS7805P; MF: TEXAS INSTRUMENTS; OC_FARNELL: 1212283; OC_NEWARK: 35C1528
footprint DIL28-3
pins: 1 VIN, 2 AGND1 (power), 3 REF, 4 CAP, 5 AGND2 (power), 6 D15 (out), 7 D14 (out), 8 D13 (out), 9 D12 (out), 10 D11 (out), 11 D10 (out), 12 D9 (out), 13 D8 (out), 14 DGND (power), 15 D7 (out), 16 D6 (out), 17 D5 (out), 18 D4 (out), 19 D3 (out), 20 D2 (out), 21 D1 (out), 22 D0 (out), 23 BYTE, 24 R/!C, 25 !CS, 26 !BUSY (out), 27 VANA (power), 28 VDIG (power)

## ADS7805U
designator IC?, comment 16-Bit 10us Sampling CMOS ADC
MPN: ADS7805U; MF: TEXAS INSTRUMENTS; OC_FARNELL: 1192284; OC_NEWARK: 80K5546
footprint SO28-3
pins: 1 VIN, 2 AGND1 (power), 3 REF, 4 CAP, 5 AGND2 (power), 6 D15 (out), 7 D14 (out), 8 D13 (out), 9 D12 (out), 10 D11 (out), 11 D10 (out), 12 D9 (out), 13 D8 (out), 14 DGND (power), 15 D7 (out), 16 D6 (out), 17 D5 (out), 18 D4 (out), 19 D3 (out), 20 D2 (out), 21 D1 (out), 22 D0 (out), 23 BYTE, 24 R/!C, 25 !CS, 26 !BUSY (out), 27 VANA (power), 28 VDIG (power)

## ADS7806P
designator IC?, comment Low-Power 12-Bit Sampling CMOS ADC
MPN: ADS7806PG4; OC_FARNELL: 1178440; OC_NEWARK: 81K0043
footprint DIL28-3
pins: 1 R1IN, 2 AGND1 (power), 3 R2IN, 4 CAP, 5 REF (out), 6 AGND2 (power), 7 SB/!PTC, 8 EXT/!INT, 9 D7 (out), 10 D6 (out), 11 D5 (out), 12 D4 (out), 13 D3 (out), 14 DGND (power), 15 D2 (out), 16 D1 (out), 17 D0 (out), 18 DATACLK, 19 SDATA (out), 20 TAG, 21 BYTE, 22 R/!C, 23 !CS, 24 !BUSY (out), 25 PWRD, 26 REFD, 27 VANA (power), 28 VDIG (power)

## ADS7806U
designator IC?, comment Low-Power 12-Bit Sampling CMOS ADC
OC_FARNELL: 1106202; OC_NEWARK: unknown
footprint SO28-3
pins: 1 R1IN, 2 AGND1 (power), 3 R2IN, 4 CAP, 5 REF (out), 6 AGND2 (power), 7 SB/!PTC, 8 EXT/!INT, 9 D7 (out), 10 D6 (out), 11 D5 (out), 12 D4 (out), 13 D3 (out), 14 DGND (power), 15 D2 (out), 16 D1 (out), 17 D0 (out), 18 DATACLK, 19 SDATA (out), 20 TAG, 21 BYTE, 22 R/!C, 23 !CS, 24 !BUSY (out), 25 PWRD, 26 REFD, 27 VANA (power), 28 VDIG (power)

## ADS7807P
designator IC?, comment Low-Power 16-Bit Sampling CMOS ADC
MPN: ADS7807P; MF: TEXAS INSTRUMENTS; OC_FARNELL: 1097549; OC_NEWARK: 74C7075
footprint DIL28-3
pins: 1 R1IN, 2 AGND1 (power), 3 R2IN, 4 CAP, 5 REF (out), 6 AGND2 (power), 7 SB/!PTC, 8 EXT/!INT, 9 D7 (out), 10 D6 (out), 11 D5 (out), 12 D4 (out), 13 D3 (out), 14 DGND (power), 15 D2 (out), 16 D1 (out), 17 D0 (out), 18 DATACLK, 19 SDATA (out), 20 TAG, 21 BYTE, 22 R/!C, 23 !CS, 24 !BUSY (out), 25 PWRD, 26 REFD, 27 VANA (power), 28 VDIG (power)

## ADS7807U
designator IC?, comment Low-Power 16-Bit Sampling CMOS ADC
MPN: ADS7807U; MF: TEXAS INSTRUMENTS; OC_FARNELL: 1273123; OC_NEWARK: 80K5548
footprint SO28-3
pins: 1 R1IN, 2 AGND1 (power), 3 R2IN, 4 CAP, 5 REF (out), 6 AGND2 (power), 7 SB/!PTC, 8 EXT/!INT, 9 D7 (out), 10 D6 (out), 11 D5 (out), 12 D4 (out), 13 D3 (out), 14 DGND (power), 15 D2 (out), 16 D1 (out), 17 D0 (out), 18 DATACLK, 19 SDATA (out), 20 TAG, 21 BYTE, 22 R/!C, 23 !CS, 24 !BUSY (out), 25 PWRD, 26 REFD, 27 VANA (power), 28 VDIG (power)

## ADS7809P
designator IC?, comment 16-Bit 10us Serial CMOS Sampling ADC
MPN: AD977ANZ; MF: ALTERA CORPORATION; OC_FARNELL: 1079312; OC_NEWARK: 59K7418
footprint DIL20
pins: 1 R1IN, 2 AGND1 (power), 3 R2IN, 4 R3IN, 5 CAP, 6 REF, 7 AGND2 (power), 8 SB/!BTC, 9 EXT/!INT, 10 DGND (power), 11 SYNC (out), 12 DATACLK, 13 DATA (out), 14 TAG, 15 R/!C, 16 !CS, 17 !BUSY (out), 18 PWRD, 19 VANA (power), 20 VDIG (power)

## ADS7809U
designator IC?, comment 16-Bit 10us Serial CMOS Sampling ADC
MPN: ADS7809U; MF: TEXAS INSTRUMENTS; OC_FARNELL: 1214386; OC_NEWARK: 80K5549
footprint SO20L
pins: 1 R1IN, 2 AGND1 (power), 3 R2IN, 4 R3IN, 5 CAP, 6 REF, 7 AGND2 (power), 8 SB/!BTC, 9 EXT/!INT, 10 DGND (power), 11 SYNC (out), 12 DATACLK, 13 DATA (out), 14 TAG, 15 R/!C, 16 !CS, 17 !BUSY (out), 18 PWRD, 19 VANA (power), 20 VDIG (power)

## ADS7810P
designator IC?, comment 12-Bit 800kHz Sampling CMOS ADC
OC_FARNELL: unknown; OC_NEWARK: unknown
footprint DIL28-3
pins: 1 VIN, 2 AGND1 (power), 3 REF, 4 CAP, 5 AGND2 (power), 6 D11 (out), 7 D10 (out), 8 D9 (out), 9 D8 (out), 10 D7 (out), 11 D6 (out), 12 D5 (out), 13 D4 (out), 14 DGND (power), 15 D3 (out), 16 D2 (out), 17 D1 (out), 18 D0 (out), 19 NC, 20 +VANA (power), 21 +VDIG (power), 22 DGND@1 (power), 23 R/!C, 24 !CS, 25 !BUSY (out), 26 -VANA (power), 27 +VDIG@1 (power), 28 +VANA@1 (power)

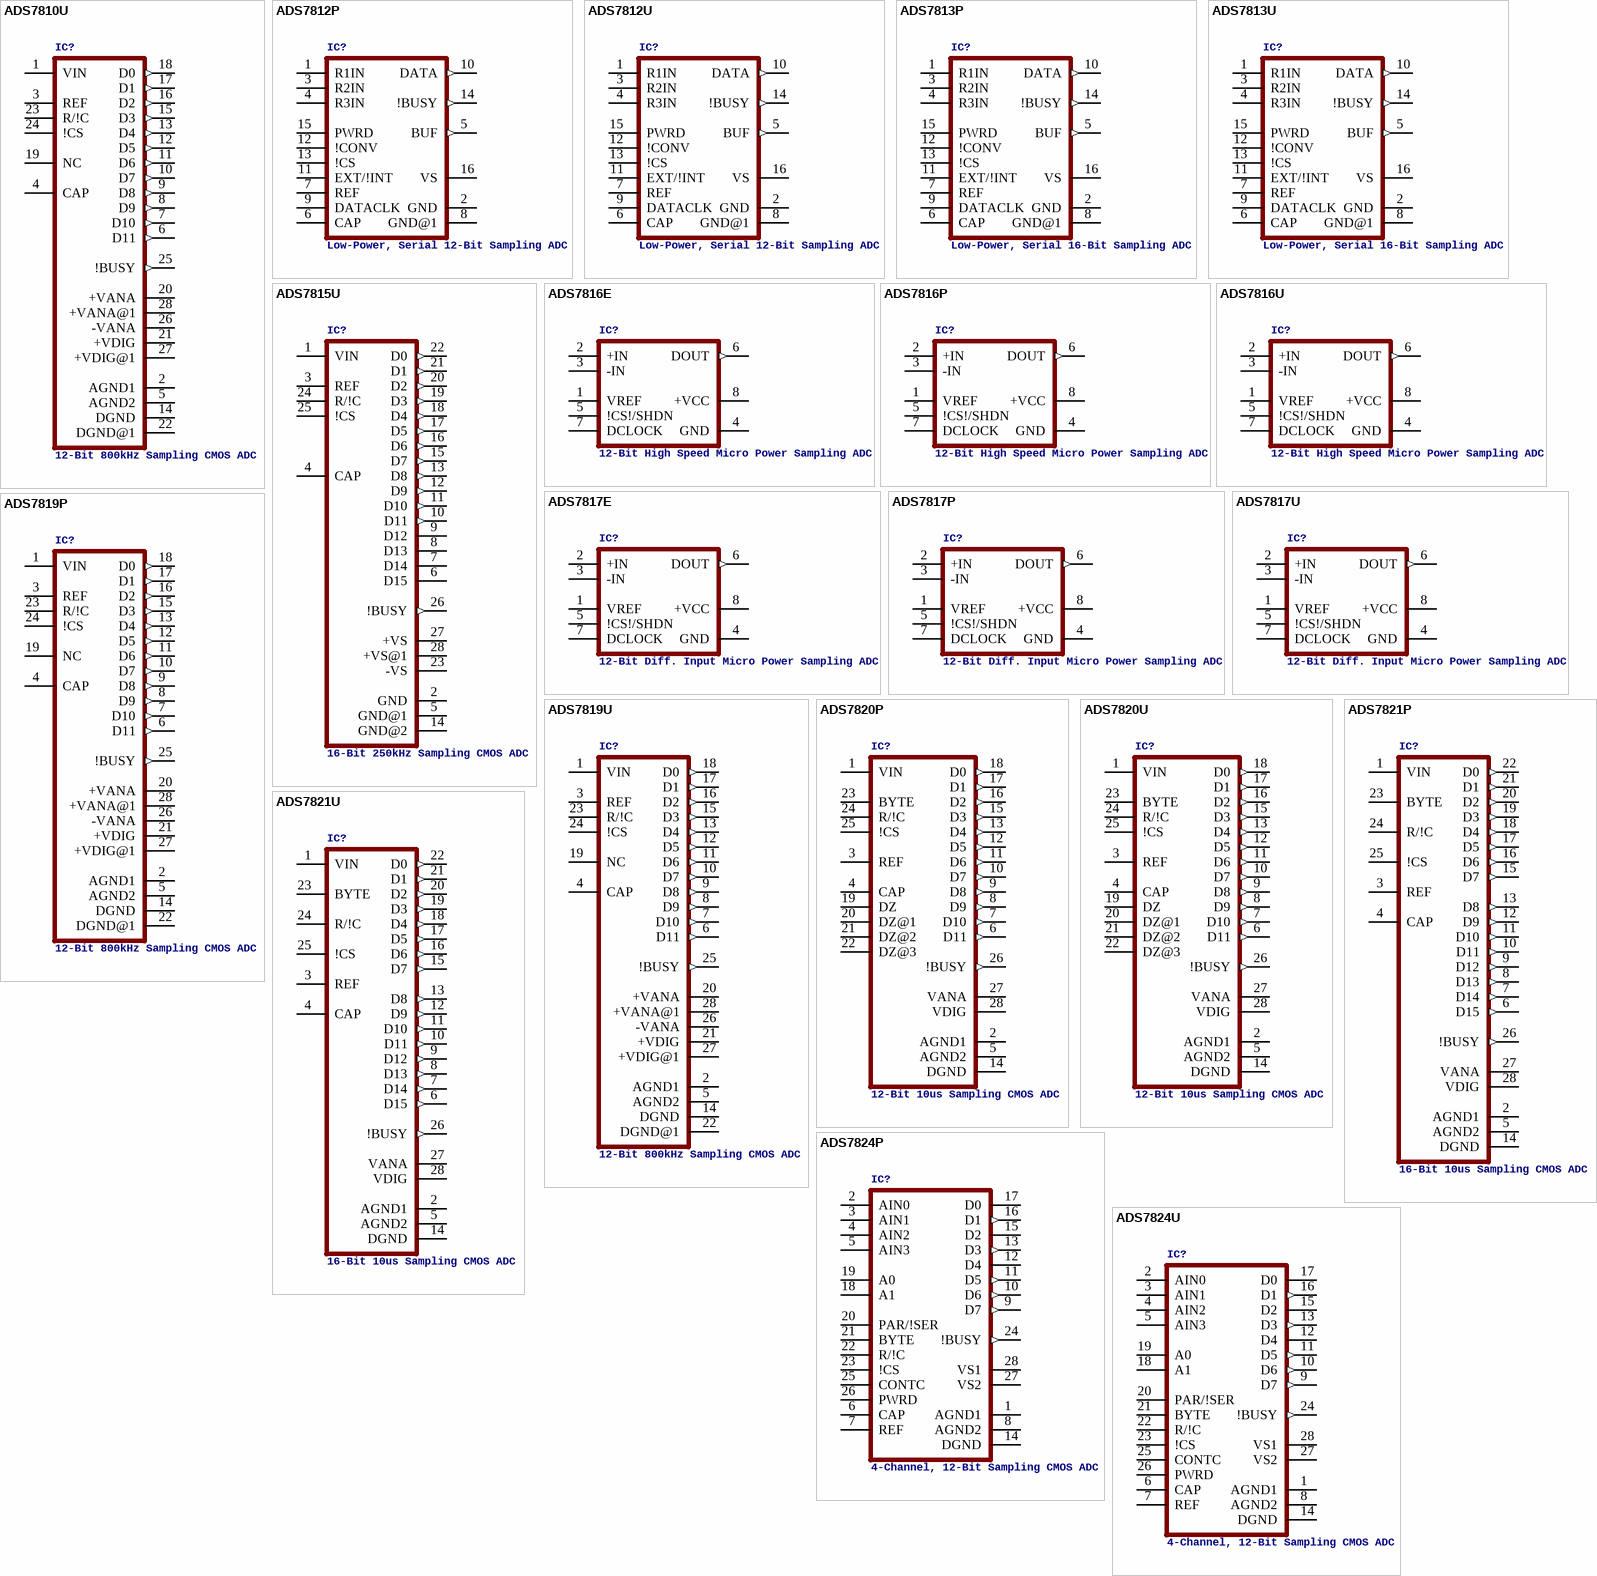
[diagram p4: symbols ADS7810U to ADS7824U]

## ADS7810U
designator IC?, comment 12-Bit 800kHz Sampling CMOS ADC
MPN: ADS7810U; MF: TEXAS INSTRUMENTS; OC_FARNELL: 1509511; OC_NEWARK: 73C9220
footprint SO28-3
pins: 1 VIN, 2 AGND1 (power), 3 REF, 4 CAP, 5 AGND2 (power), 6 D11 (out), 7 D10 (out), 8 D9 (out), 9 D8 (out), 10 D7 (out), 11 D6 (out), 12 D5 (out), 13 D4 (out), 14 DGND (power), 15 D3 (out), 16 D2 (out), 17 D1 (out), 18 D0 (out), 19 NC, 20 +VANA (power), 21 +VDIG (power), 22 DGND@1 (power), 23 R/!C, 24 !CS, 25 !BUSY (out), 26 -VANA (power), 27 +VDIG@1 (power), 28 +VANA@1 (power)

## ADS7812P
designator IC?, comment Low-Power, Serial 12-Bit Sampling ADC
MPN: ADS7812P; MF: TEXAS INSTRUMENT CONNECTORS; OC_FARNELL: 1509513; OC_NEWARK: 74C7091
footprint DIL16
pins: 1 R1IN, 2 GND (power), 3 R2IN, 4 R3IN, 5 BUF (out), 6 CAP, 7 REF, 8 GND@1 (power), 9 DATACLK, 10 DATA (out), 11 EXT/!INT, 12 !CONV, 13 !CS, 14 !BUSY (out), 15 PWRD, 16 VS (power)

## ADS7812U
designator IC?, comment Low-Power, Serial 12-Bit Sampling ADC
MPN: ADS7812U; MF: TEXAS INSTRUMENT CONNECTORS; OC_FARNELL: 1459274; OC_NEWARK: 14M8148
footprint SO16-1
pins: 1 R1IN, 2 GND (power), 3 R2IN, 4 R3IN, 5 BUF (out), 6 CAP, 7 REF, 8 GND@1 (power), 9 DATACLK, 10 DATA (out), 11 EXT/!INT, 12 !CONV, 13 !CS, 14 !BUSY (out), 15 PWRD, 16 VS (power)

## ADS7813P
designator IC?, comment Low-Power, Serial 16-Bit Sampling ADC
MPN: ADS7813P; OC_FARNELL: 1212285; OC_NEWARK: 01M6818
footprint DIL16
pins: 1 R1IN, 2 GND (power), 3 R2IN, 4 R3IN, 5 BUF (out), 6 CAP, 7 REF, 8 GND@1 (power), 9 DATACLK, 10 DATA (out), 11 EXT/!INT, 12 !CONV, 13 !CS, 14 !BUSY (out), 15 PWRD, 16 VS (power)

## ADS7813U
designator IC?, comment Low-Power, Serial 16-Bit Sampling ADC
MPN: ADS7813U; MF: TEXAS INSTRUMENTS; OC_FARNELL: 1459277; OC_NEWARK: 80K5551
footprint SO16-1
pins: 1 R1IN, 2 GND (power), 3 R2IN, 4 R3IN, 5 BUF (out), 6 CAP, 7 REF, 8 GND@1 (power), 9 DATACLK, 10 DATA (out), 11 EXT/!INT, 12 !CONV, 13 !CS, 14 !BUSY (out), 15 PWRD, 16 VS (power)

## ADS7815U
designator IC?, comment 16-Bit 250kHz Sampling CMOS ADC
MPN: ADS7815UE4; OC_FARNELL: 1206867; OC_NEWARK: 96K6229
footprint SO28-3
pins: 1 VIN, 2 GND (power), 3 REF, 4 CAP, 5 GND@1 (power), 6 D15 (power), 7 D14 (power), 8 D13 (power), 9 D12 (power), 10 D11 (out), 11 D10 (out), 12 D9 (out), 13 D8 (out), 14 GND@2 (power), 15 D7 (out), 16 D6 (out), 17 D5 (out), 18 D4 (out), 19 D3 (out), 20 D2 (out), 21 D1 (out), 22 D0 (out), 23 -VS (power), 24 R/!C, 25 !CS, 26 !BUSY (out), 27 +VS (power), 28 +VS@1 (power)

## ADS7816E
designator IC?, comment 12-Bit High Speed Micro Power Sampling ADC
MPN: ADS7816EC/250; MF: TEXAS INSTRUMENT CONNECTORS; OC_FARNELL: 1754724; OC_NEWARK: 74C7108
footprint MSOP08
pins: 1 VREF, 2 +IN, 3 -IN, 4 GND (power), 5 !CS!/SHDN, 6 DOUT (out), 7 DCLOCK, 8 +VCC (power)

## ADS7816P
designator IC?, comment 12-Bit High Speed Micro Power Sampling ADC
MPN: ADS7816P; MF: TEXAS INSTRUMENT CONNECTORS; OC_FARNELL: 1097576; OC_NEWARK: 14M9332
footprint DIL08
pins: 1 VREF, 2 +IN, 3 -IN, 4 GND (power), 5 !CS!/SHDN, 6 DOUT (out), 7 DCLOCK, 8 +VCC (power)

## ADS7816U
designator IC?, comment 12-Bit High Speed Micro Power Sampling ADC
MPN: ADS7816U; MF: TEXAS INSTRUMENTS; OC_FARNELL: 1273124; OC_NEWARK: 80K5554
footprint SO08-GW
pins: 1 VREF, 2 +IN, 3 -IN, 4 GND (power), 5 !CS!/SHDN, 6 DOUT (out), 7 DCLOCK, 8 +VCC (power)

## ADS7817E
designator IC?, comment 12-Bit Diff. Input Micro Power Sampling ADC
MPN: ADS7817E/250G4; OC_FARNELL: unknown; OC_NEWARK: 73K7081
footprint MSOP08
pins: 1 VREF, 2 +IN, 3 -IN, 4 GND (power), 5 !CS!/SHDN, 6 DOUT (out), 7 DCLOCK, 8 +VCC (power)

## ADS7817P
designator IC?, comment 12-Bit Diff. Input Micro Power Sampling ADC
OC_FARNELL: unknown; OC_NEWARK: unknown
footprint DIL08
pins: 1 VREF, 2 +IN, 3 -IN, 4 GND (power), 5 !CS!/SHDN, 6 DOUT (out), 7 DCLOCK, 8 +VCC (power)

## ADS7817U
designator IC?, comment 12-Bit Diff. Input Micro Power Sampling ADC
MPN: ADS7817UC; MF: TEXAS INSTRUMENT CONNECTORS; OC_FARNELL: 1407035; OC_NEWARK: 74C7126
footprint SO08-GW
pins: 1 VREF, 2 +IN, 3 -IN, 4 GND (power), 5 !CS!/SHDN, 6 DOUT (out), 7 DCLOCK, 8 +VCC (power)

## ADS7819P
designator IC?, comment 12-Bit 800kHz Sampling CMOS ADC
OC_FARNELL: unknown; OC_NEWARK: unknown
footprint DIL28-3
pins: 1 VIN, 2 AGND1 (power), 3 REF, 4 CAP, 5 AGND2 (power), 6 D11 (out), 7 D10 (out), 8 D9 (out), 9 D8 (out), 10 D7 (out), 11 D6 (out), 12 D5 (out), 13 D4 (out), 14 DGND (power), 15 D3 (out), 16 D2 (out), 17 D1 (out), 18 D0 (out), 19 NC, 20 +VANA (power), 21 +VDIG (power), 22 DGND@1 (power), 23 R/!C, 24 !CS, 25 !BUSY (out), 26 -VANA (power), 27 +VDIG@1 (power), 28 +VANA@1 (power)

## ADS7819U
designator IC?, comment 12-Bit 800kHz Sampling CMOS ADC
OC_FARNELL: unknown; OC_NEWARK: unknown
footprint SO28-3
pins: 1 VIN, 2 AGND1 (power), 3 REF, 4 CAP, 5 AGND2 (power), 6 D11 (out), 7 D10 (out), 8 D9 (out), 9 D8 (out), 10 D7 (out), 11 D6 (out), 12 D5 (out), 13 D4 (out), 14 DGND (power), 15 D3 (out), 16 D2 (out), 17 D1 (out), 18 D0 (out), 19 NC, 20 +VANA (power), 21 +VDIG (power), 22 DGND@1 (power), 23 R/!C, 24 !CS, 25 !BUSY (out), 26 -VANA (power), 27 +VDIG@1 (power), 28 +VANA@1 (power)

## ADS7820P
designator IC?, comment 12-Bit 10us Sampling CMOS ADC
OC_FARNELL: unknown; OC_NEWARK: unknown
footprint DIL28-3
pins: 1 VIN, 2 AGND1 (power), 3 REF, 4 CAP, 5 AGND2 (power), 6 D11 (out), 7 D10 (out), 8 D9 (out), 9 D8 (out), 10 D7 (out), 11 D6 (out), 12 D5 (out), 13 D4 (out), 14 DGND (power), 15 D3 (out), 16 D2 (out), 17 D1 (out), 18 D0 (out), 19 DZ, 20 DZ@1, 21 DZ@2, 22 DZ@3, 23 BYTE, 24 R/!C, 25 !CS, 26 !BUSY (out), 27 VANA (power), 28 VDIG (power)

## ADS7820U
designator IC?, comment 12-Bit 10us Sampling CMOS ADC
OC_FARNELL: unknown; OC_NEWARK: unknown
footprint SO28-3
pins: 1 VIN, 2 AGND1 (power), 3 REF, 4 CAP, 5 AGND2 (power), 6 D11 (out), 7 D10 (out), 8 D9 (out), 9 D8 (out), 10 D7 (out), 11 D6 (out), 12 D5 (out), 13 D4 (out), 14 DGND (power), 15 D3 (out), 16 D2 (out), 17 D1 (out), 18 D0 (out), 19 DZ, 20 DZ@1, 21 DZ@2, 22 DZ@3, 23 BYTE, 24 R/!C, 25 !CS, 26 !BUSY (out), 27 VANA (power), 28 VDIG (power)

## ADS7821P
designator IC?, comment 16-Bit 10us Sampling CMOS ADC
OC_FARNELL: unknown; OC_NEWARK: unknown
footprint DIL28-3
pins: 1 VIN, 2 AGND1 (power), 3 REF, 4 CAP, 5 AGND2 (power), 6 D15 (out), 7 D14 (out), 8 D13 (out), 9 D12 (out), 10 D11 (out), 11 D10 (out), 12 D9 (out), 13 D8 (out), 14 DGND (power), 15 D7 (out), 16 D6 (out), 17 D5 (out), 18 D4 (out), 19 D3 (out), 20 D2 (out), 21 D1 (out), 22 D0 (out), 23 BYTE, 24 R/!C, 25 !CS, 26 !BUSY (out), 27 VANA (power), 28 VDIG (power)

## ADS7821U
designator IC?, comment 16-Bit 10us Sampling CMOS ADC
OC_FARNELL: unknown; OC_NEWARK: unknown
footprint SO28-3
pins: 1 VIN, 2 AGND1 (power), 3 REF, 4 CAP, 5 AGND2 (power), 6 D15 (out), 7 D14 (out), 8 D13 (out), 9 D12 (out), 10 D11 (out), 11 D10 (out), 12 D9 (out), 13 D8 (out), 14 DGND (power), 15 D7 (out), 16 D6 (out), 17 D5 (out), 18 D4 (out), 19 D3 (out), 20 D2 (out), 21 D1 (out), 22 D0 (out), 23 BYTE, 24 R/!C, 25 !CS, 26 !BUSY (out), 27 VANA (power), 28 VDIG (power)

## ADS7824P
designator IC?, comment 4-Channel, 12-Bit Sampling CMOS ADC
MPN: ADS7824P; MF: TEXAS INSTRUMENT CONNECTORS; OC_FARNELL: 1648604; OC_NEWARK: 14M8149
footprint DIL28-3
pins: 1 AGND1 (power), 2 AIN0, 3 AIN1, 4 AIN2, 5 AIN3, 6 CAP, 7 REF, 8 AGND2 (power), 9 D7 (out), 10 D6 (out), 11 D5 (out), 12 D4, 13 D3 (out), 14 DGND (power), 15 D2, 16 D1 (out), 17 D0, 18 A1, 19 A0, 20 PAR/!SER, 21 BYTE, 22 R/!C, 23 !CS, 24 !BUSY (out), 25 CONTC, 26 PWRD, 27 VS2 (power), 28 VS1 (power)

## ADS7824U
designator IC?, comment 4-Channel, 12-Bit Sampling CMOS ADC
MPN: ADS7824U; MF: TEXAS INSTRUMENTS; OC_FARNELL: 1106198; OC_NEWARK: 35C1550
footprint SO28-3
pins: 1 AGND1 (power), 2 AIN0, 3 AIN1, 4 AIN2, 5 AIN3, 6 CAP, 7 REF, 8 AGND2 (power), 9 D7 (out), 10 D6 (out), 11 D5 (out), 12 D4, 13 D3 (out), 14 DGND (power), 15 D2, 16 D1 (out), 17 D0, 18 A1, 19 A0, 20 PAR/!SER, 21 BYTE, 22 R/!C, 23 !CS, 24 !BUSY (out), 25 CONTC, 26 PWRD, 27 VS2 (power), 28 VS1 (power)

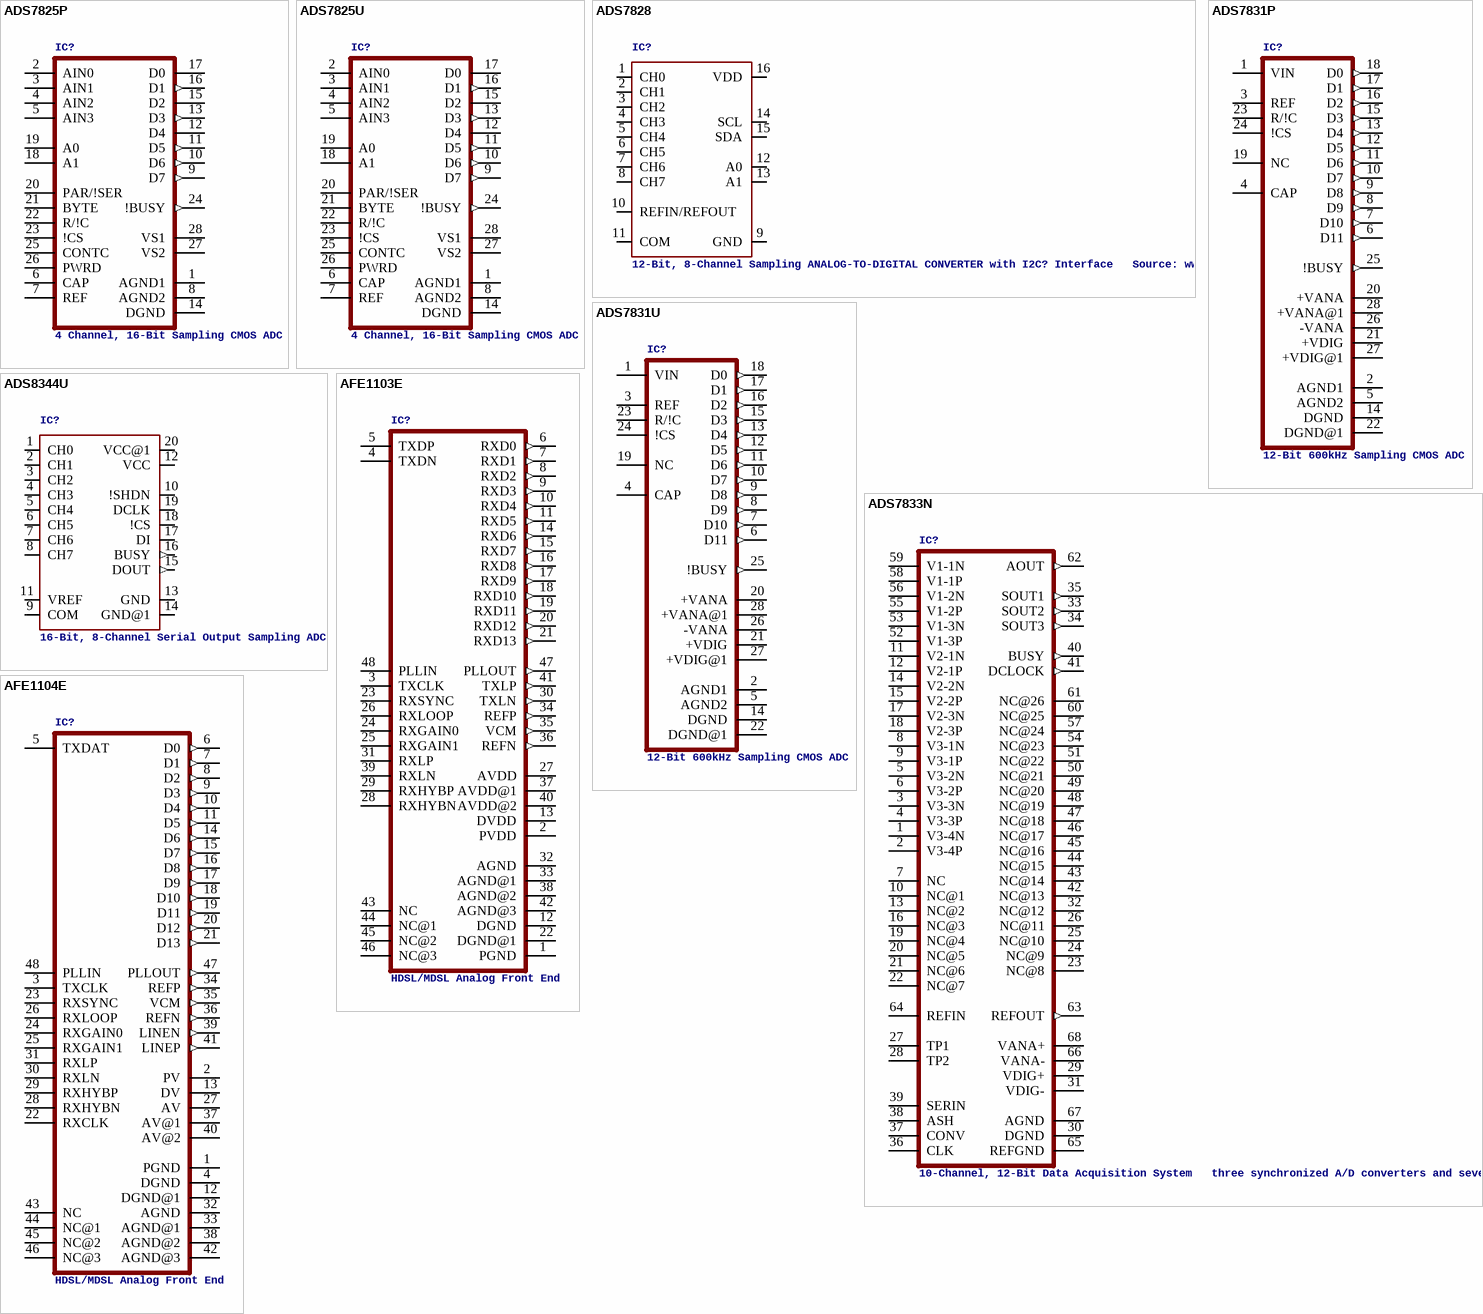
[diagram p5: symbols ADS7825P to AFE1104E]

## ADS7825P
designator IC?, comment 4 Channel, 16-Bit Sampling CMOS ADC
MPN: ADS7825P; MF: TEXAS INSTRUMENTS; OC_FARNELL: 1459283; OC_NEWARK: 14M8150
footprint DIL28-3
pins: 1 AGND1 (power), 2 AIN0, 3 AIN1, 4 AIN2, 5 AIN3, 6 CAP, 7 REF, 8 AGND2 (power), 9 D7 (out), 10 D6 (out), 11 D5 (out), 12 D4, 13 D3 (out), 14 DGND (power), 15 D2, 16 D1 (out), 17 D0, 18 A1, 19 A0, 20 PAR/!SER, 21 BYTE, 22 R/!C, 23 !CS, 24 !BUSY (out), 25 CONTC, 26 PWRD, 27 VS2 (power), 28 VS1 (power)

## ADS7825U
designator IC?, comment 4 Channel, 16-Bit Sampling CMOS ADC
MPN: ADS7825U; MF: TEXAS INSTRUMENTS; OC_FARNELL: 1097512; OC_NEWARK: 14M8151
footprint SO28-3
pins: 1 AGND1 (power), 2 AIN0, 3 AIN1, 4 AIN2, 5 AIN3, 6 CAP, 7 REF, 8 AGND2 (power), 9 D7 (out), 10 D6 (out), 11 D5 (out), 12 D4, 13 D3 (out), 14 DGND (power), 15 D2, 16 D1 (out), 17 D0, 18 A1, 19 A0, 20 PAR/!SER, 21 BYTE, 22 R/!C, 23 !CS, 24 !BUSY (out), 25 CONTC, 26 PWRD, 27 VS2 (power), 28 VS1 (power)

## ADS7828
designator IC?, comment 12-Bit, 8-Channel Sampling ANALOG-TO-DIGITAL CONVERTER with I2C? Interface   Source: www.ti.com .. ADS7828.pdf
MPN: ADS7828E/250; MF: TEXAS INSTRUMENTS; OC_FARNELL: 1470338; OC_NEWARK: 74C7158
footprint TSSOP16-PW
pins: 1 CH0, 2 CH1, 3 CH2, 4 CH3, 5 CH4, 6 CH5, 7 CH6, 8 CH7, 9 GND (power), 10 REFIN/REFOUT, 11 COM, 12 A0, 13 A1, 14 SCL, 15 SDA, 16 VDD (power)

## ADS7831P
designator IC?, comment 12-Bit 600kHz Sampling CMOS ADC
OC_FARNELL: unknown; OC_NEWARK: unknown
footprint DIL28-3
pins: 1 VIN, 2 AGND1 (power), 3 REF, 4 CAP, 5 AGND2 (power), 6 D11 (out), 7 D10 (out), 8 D9 (out), 9 D8 (out), 10 D7 (out), 11 D6 (out), 12 D5 (out), 13 D4 (out), 14 DGND (power), 15 D3 (out), 16 D2 (out), 17 D1 (out), 18 D0 (out), 19 NC, 20 +VANA (power), 21 +VDIG (power), 22 DGND@1 (power), 23 R/!C, 24 !CS, 25 !BUSY (out), 26 -VANA (power), 27 +VDIG@1 (power), 28 +VANA@1 (power)

## ADS7831U
designator IC?, comment 12-Bit 600kHz Sampling CMOS ADC
OC_FARNELL: unknown; OC_NEWARK: unknown
footprint SO28-3
pins: 1 VIN, 2 AGND1 (power), 3 REF, 4 CAP, 5 AGND2 (power), 6 D11 (out), 7 D10 (out), 8 D9 (out), 9 D8 (out), 10 D7 (out), 11 D6 (out), 12 D5 (out), 13 D4 (out), 14 DGND (power), 15 D3 (out), 16 D2 (out), 17 D1 (out), 18 D0 (out), 19 NC, 20 +VANA (power), 21 +VDIG (power), 22 DGND@1 (power), 23 R/!C, 24 !CS, 25 !BUSY (out), 26 -VANA (power), 27 +VDIG@1 (power), 28 +VANA@1 (power)

## ADS7833N
designator IC?, comment 10-Channel, 12-Bit Data Acquisition System   three synchronized A/D converters and seven S/H amplifiers
OC_FARNELL: unknown; OC_NEWARK: unknown
footprint PLCC68
pins: 1 V3-4N, 2 V3-4P, 3 V3-3N, 4 V3-3P, 5 V3-2N, 6 V3-2P, 7 NC, 8 V3-1N, 9 V3-1P, 10 NC@1, 11 V2-1N, 12 V2-1P, 13 NC@2, 14 V2-2N, 15 V2-2P, 16 NC@3, 17 V2-3N, 18 V2-3P, 19 NC@4, 20 NC@5, 21 NC@6, 22 NC@7, 23 NC@8, 24 NC@9, 25 NC@10, 26 NC@11, 27 TP1, 28 TP2, 29 VDIG+ (power), 30 DGND (power), 31 VDIG- (power), 32 NC@12, 33 SOUT2 (out), 34 SOUT3 (out), 35 SOUT1 (out), 36 CLK, 37 CONV, 38 ASH, 39 SERIN, 40 BUSY (out), 41 DCLOCK (out), 42 NC@13, 43 NC@14, 44 NC@15, 45 NC@16, 46 NC@17, 47 NC@18, 48 NC@19, 49 NC@20, 50 NC@21, 51 NC@22, 52 V1-3P, 53 V1-3N, 54 NC@23, 55 V1-2P, 56 V1-2N, 57 NC@24, 58 V1-1P, 59 V1-1N, 60 NC@25, 61 NC@26, 62 AOUT (out), 63 REFOUT (out), 64 REFIN, 65 REFGND (power), 66 VANA- (power), 67 AGND (power), 68 VANA+ (power)

## ADS8344U
designator IC?, comment 16-Bit, 8-Channel Serial Output Sampling ADC
MPN: ADS8344NB; OC_FARNELL: 1212294; OC_NEWARK: 01M6827
footprint SSOP20BU
pins: 1 CH0, 2 CH1, 3 CH2, 4 CH3, 5 CH4, 6 CH5, 7 CH6, 8 CH7, 9 COM, 10 !SHDN, 11 VREF, 12 VCC (power), 13 GND (power), 14 GND@1 (power), 15 DOUT (out), 16 BUSY (out), 17 DI, 18 !CS, 19 DCLK, 20 VCC@1 (power)

## AFE1103E
designator IC?, comment HDSL/MDSL Analog Front End
MPN: AFE1103E; MF: TEXAS INSTRUMENT CONNECTORS; OC_FARNELL: 1509833; OC_NEWARK: 74C7270
footprint SSOP48DL
pins: 1 PGND (power), 2 PVDD (power), 3 TXCLK, 4 TXDN, 5 TXDP, 6 RXD0 (out), 7 RXD1 (out), 8 RXD2 (out), 9 RXD3 (out), 10 RXD4 (out), 11 RXD5 (out), 12 DGND (power), 13 DVDD (power), 14 RXD6 (out), 15 RXD7 (out), 16 RXD8 (out), 17 RXD9 (out), 18 RXD10 (out), 19 RXD11 (out), 20 RXD12 (out), 21 RXD13 (out), 22 DGND@1 (power), 23 RXSYNC, 24 RXGAIN0, 25 RXGAIN1, 26 RXLOOP, 27 AVDD (power), 28 RXHYBN, 29 RXHYBP, 30 TXLN (out), 31 RXLP, 32 AGND (power), 33 AGND@1 (power), 34 REFP (out), 35 VCM (out), 36 REFN (out), 37 AVDD@1 (power), 38 AGND@2 (power), 39 RXLN, 40 AVDD@2 (power), 41 TXLP (out), 42 AGND@3 (power), 43 NC, 44 NC@1, 45 NC@2, 46 NC@3, 47 PLLOUT (out), 48 PLLIN

## AFE1104E
designator IC?, comment HDSL/MDSL Analog Front End
MPN: AFE1104E; MF: TEXAS INSTRUMENT CONNECTORS; OC_FARNELL: unknown; OC_NEWARK: 74C7272
footprint SSOP48DL
pins: 1 PGND (power), 2 PV (power), 3 TXCLK, 4 DGND (power), 5 TXDAT, 6 D0 (out), 7 D1 (out), 8 D2 (out), 9 D3 (out), 10 D4 (out), 11 D5 (out), 12 DGND@1 (power), 13 DV (power), 14 D6 (out), 15 D7 (out), 16 D8 (out), 17 D9 (out), 18 D10 (out), 19 D11 (out), 20 D12 (out), 21 D13 (out), 22 RXCLK, 23 RXSYNC, 24 RXGAIN0, 25 RXGAIN1, 26 RXLOOP, 27 AV (power), 28 RXHYBN, 29 RXHYBP, 30 RXLN, 31 RXLP, 32 AGND (power), 33 AGND@1 (power), 34 REFP (out), 35 VCM (out), 36 REFN (out), 37 AV@1 (power), 38 AGND@2 (power), 39 LINEN (out), 40 AV@2 (power), 41 LINEP (out), 42 AGND@3 (power), 43 NC, 44 NC@1, 45 NC@2, 46 NC@3, 47 PLLOUT (out), 48 PLLIN

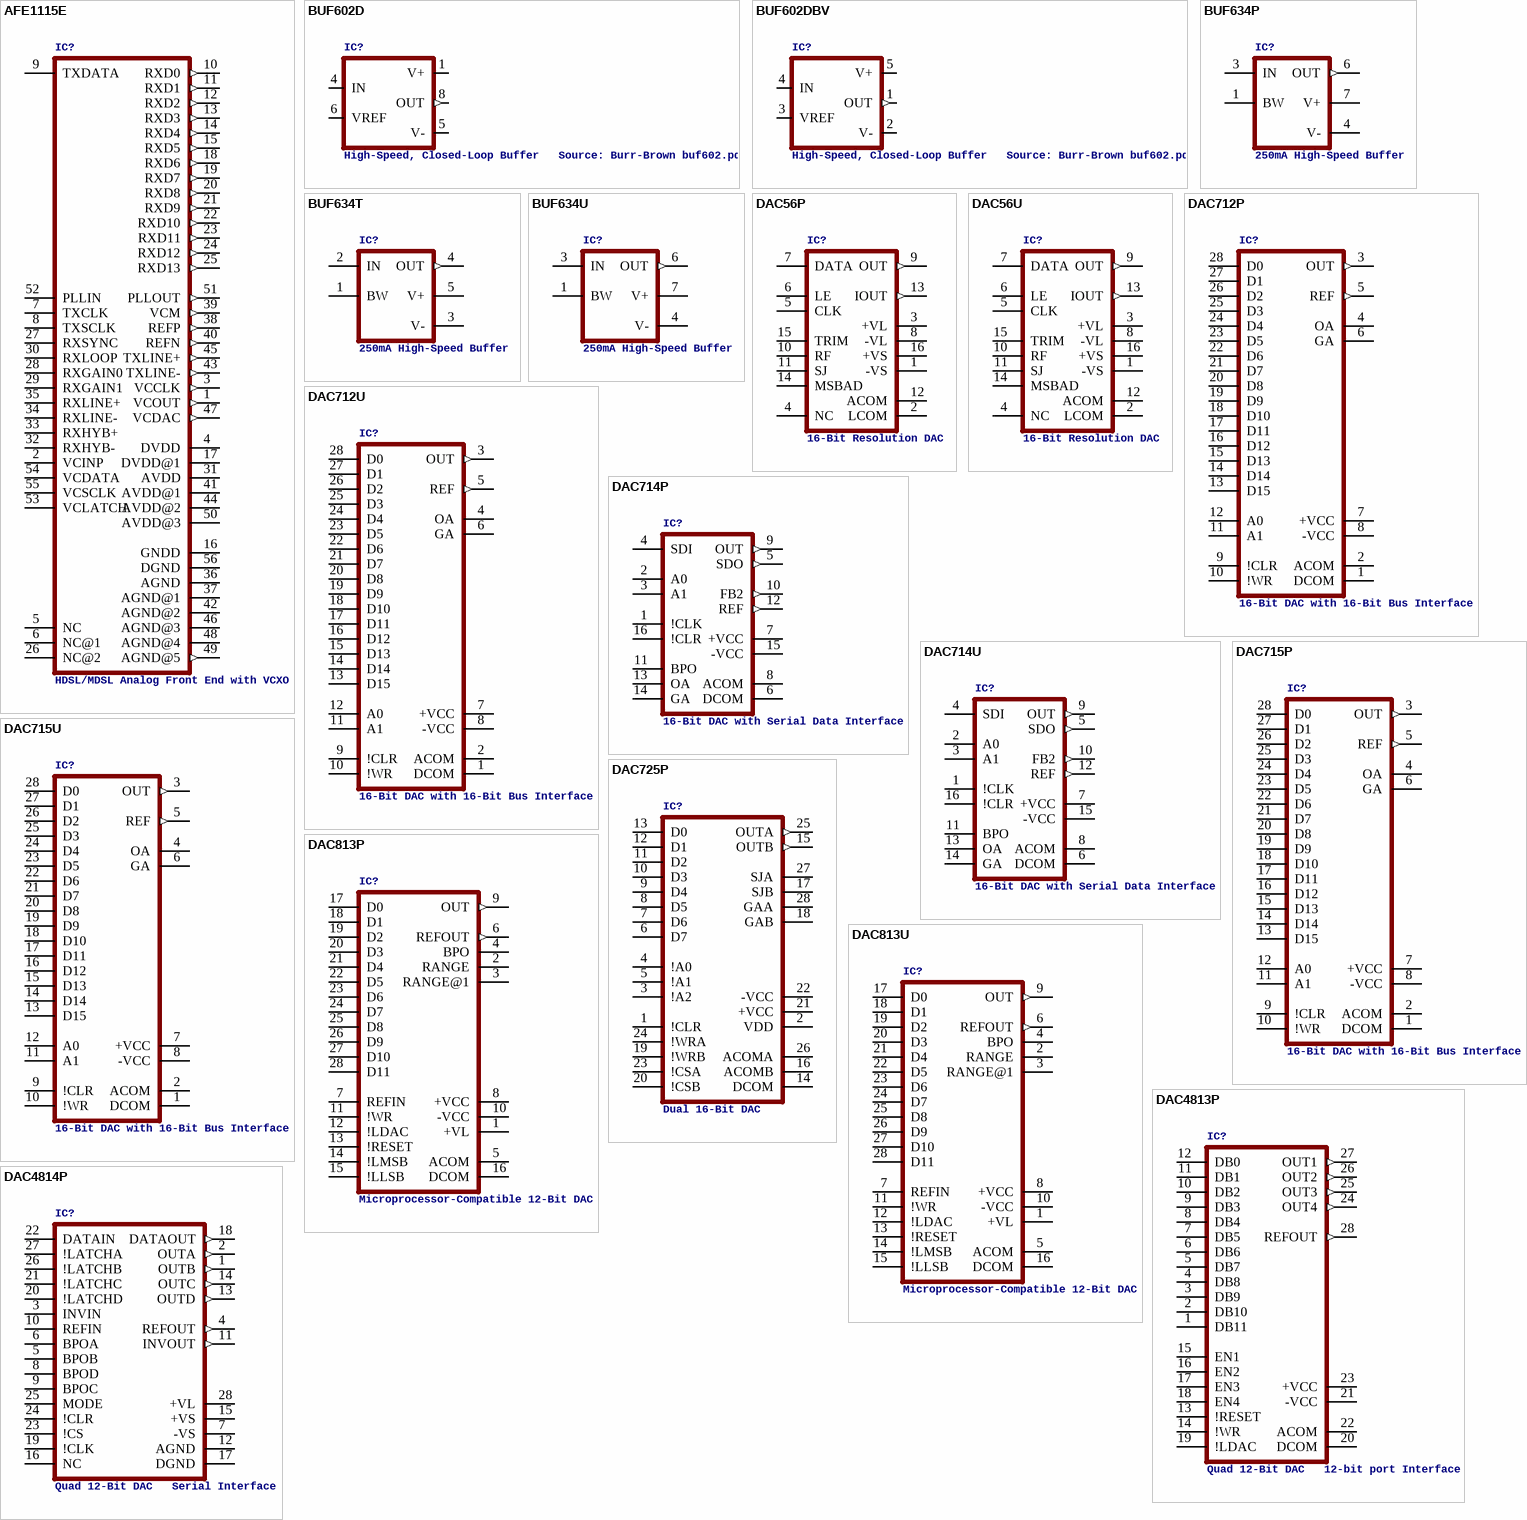
[diagram p6: symbols AFE1115E to DAC4814P]

## AFE1115E
designator IC?, comment HDSL/MDSL Analog Front End with VCXO
OC_FARNELL: unknown; OC_NEWARK: unknown
footprint SSOP56DL
pins: 1 VCOUT (out), 2 VCINP, 3 VCCLK (out), 4 DVDD (power), 5 NC, 6 NC@1, 7 TXCLK, 8 TXSCLK, 9 TXDATA, 10 RXD0 (out), 11 RXD1 (out), 12 RXD2 (out), 13 RXD3 (out), 14 RXD4 (out), 15 RXD5 (out), 16 GNDD (power), 17 DVDD@1 (power), 18 RXD6 (out), 19 RXD7 (out), 20 RXD8 (out), 21 RXD9 (out), 22 RXD10 (out), 23 RXD11 (out), 24 RXD12 (out), 25 RXD13 (out), 26 NC@2, 27 RXSYNC, 28 RXGAIN0, 29 RXGAIN1, 30 RXLOOP, 31 AVDD (power), 32 RXHYB-, 33 RXHYB+, 34 RXLINE-, 35 RXLINE+, 36 AGND (power), 37 AGND@1 (power), 38 REFP (out), 39 VCM (out), 40 REFN (out), 41 AVDD@1 (power), 42 AGND@2 (power), 43 TXLINE- (out), 44 AVDD@2 (power), 45 TXLINE+ (out), 46 AGND@3 (power), 47 VCDAC (out), 48 AGND@4 (power), 49 AGND@5 (out), 50 AVDD@3 (power), 51 PLLOUT (out), 52 PLLIN, 53 VCLATCH, 54 VCDATA, 55 VCSCLK, 56 DGND (power)

## BUF602D
designator IC?, comment High-Speed, Closed-Loop Buffer   Source: Burr-Brown buf602.pdf
MPN: BUF602ID.; OC_FARNELL: 1754777; OC_NEWARK: 34R6765
footprint SO08
pins: 1 V+ (power), 4 IN, 5 V- (power), 6 VREF, 8 OUT (out)

## BUF602DBV
designator IC?, comment High-Speed, Closed-Loop Buffer   Source: Burr-Brown buf602.pdf
MPN: BUF602IDBVT; OC_FARNELL: 1407166; OC_NEWARK: 67K7913
footprint SOT23-5
pins: 1 OUT (out), 2 V- (power), 3 VREF, 4 IN, 5 V+ (power)

## BUF634P
designator IC?, comment 250mA High-Speed Buffer
MPN: BUF634P; MF: TEXAS INSTRUMENTS; OC_FARNELL: 1470343; OC_NEWARK: 80K5714
footprint DIL08
pins: 1 BW, 3 IN, 4 V- (power), 6 OUT (out), 7 V+ (power)

## BUF634T
designator IC?, comment 250mA High-Speed Buffer
MPN: BUF634T; MF: TEXAS INSTRUMENTS; OC_FARNELL: 1207894; OC_NEWARK: 04M8376
footprint TO220-G5
pins: 1 BW, 2 IN, 3 V- (power), 4 OUT (out), 5 V+ (power)

## BUF634U
designator IC?, comment 250mA High-Speed Buffer
MPN: BUF634U; MF: TEXAS INSTRUMENTS; OC_FARNELL: 4733617; OC_NEWARK: 27C6567
footprint SO08
pins: 1 BW, 3 IN, 4 V- (power), 6 OUT (out), 7 V+ (power)

## DAC56P
designator IC?, comment 16-Bit Resolution DAC
OC_FARNELL: unknown; OC_NEWARK: unknown
footprint DIL16
pins: 1 -VS (power), 2 LCOM (power), 3 +VL (power), 4 NC, 5 CLK, 6 LE, 7 DATA, 8 -VL (power), 9 OUT (out), 10 RF, 11 SJ, 12 ACOM (power), 13 IOUT (out), 14 MSBAD, 15 TRIM, 16 +VS (power)

## DAC56U
designator IC?, comment 16-Bit Resolution DAC
OC_FARNELL: unknown; OC_NEWARK: unknown
footprint SO16-1
pins: 1 -VS (power), 2 LCOM (power), 3 +VL (power), 4 NC, 5 CLK, 6 LE, 7 DATA, 8 -VL (power), 9 OUT (out), 10 RF, 11 SJ, 12 ACOM (power), 13 IOUT (out), 14 MSBAD, 15 TRIM, 16 +VS (power)

## DAC712P
designator IC?, comment 16-Bit DAC with 16-Bit Bus Interface
MPN: DAC712P; MF: TEXAS INSTRUMENT CONNECTORS; OC_FARNELL: unknown; OC_NEWARK: 04M4506
footprint DIL28-3
pins: 1 DCOM (power), 2 ACOM (power), 3 OUT (out), 4 OA, 5 REF (out), 6 GA, 7 +VCC (power), 8 -VCC (power), 9 !CLR, 10 !WR, 11 A1, 12 A0, 13 D15, 14 D14, 15 D13, 16 D12, 17 D11, 18 D10, 19 D9, 20 D8, 21 D7, 22 D6, 23 D5, 24 D4, 25 D3, 26 D2, 27 D1, 28 D0

## DAC712U
designator IC?, comment 16-Bit DAC with 16-Bit Bus Interface
MPN: DAC712U; MF: TEXAS INSTRUMENTS; OC_FARNELL: 1097510; OC_NEWARK: 74C9132
footprint SO28-3
pins: 1 DCOM (power), 2 ACOM (power), 3 OUT (out), 4 OA, 5 REF (out), 6 GA, 7 +VCC (power), 8 -VCC (power), 9 !CLR, 10 !WR, 11 A1, 12 A0, 13 D15, 14 D14, 15 D13, 16 D12, 17 D11, 18 D10, 19 D9, 20 D8, 21 D7, 22 D6, 23 D5, 24 D4, 25 D3, 26 D2, 27 D1, 28 D0

## DAC714P
designator IC?, comment 16-Bit DAC with Serial Data Interface
MPN: DAC714P; MF: TEXAS INSTRUMENT CONNECTORS; OC_FARNELL: 1254318; OC_NEWARK: 78K7952
footprint DIL16
pins: 1 !CLK, 2 A0, 3 A1, 4 SDI, 5 SDO (out), 6 DCOM (power), 7 +VCC (power), 8 ACOM (power), 9 OUT (out), 10 FB2 (out), 11 BPO, 12 REF (out), 13 OA, 14 GA, 15 -VCC (power), 16 !CLR

## DAC714U
designator IC?, comment 16-Bit DAC with Serial Data Interface
MPN: DAC714U; MF: TEXAS INSTRUMENTS; OC_FARNELL: 1214385; OC_NEWARK: 17M6575
footprint SO16-1
pins: 1 !CLK, 2 A0, 3 A1, 4 SDI, 5 SDO (out), 6 DCOM (power), 7 +VCC (power), 8 ACOM (power), 9 OUT (out), 10 FB2 (out), 11 BPO, 12 REF (out), 13 OA, 14 GA, 15 -VCC (power), 16 !CLR

## DAC715P
designator IC?, comment 16-Bit DAC with 16-Bit Bus Interface
MPN: DAC715P; OC_FARNELL: 1460194; OC_NEWARK: 61M5731
footprint DIL28-3
pins: 1 DCOM (power), 2 ACOM (power), 3 OUT (out), 4 OA, 5 REF (out), 6 GA, 7 +VCC (power), 8 -VCC (power), 9 !CLR, 10 !WR, 11 A1, 12 A0, 13 D15, 14 D14, 15 D13, 16 D12, 17 D11, 18 D10, 19 D9, 20 D8, 21 D7, 22 D6, 23 D5, 24 D4, 25 D3, 26 D2, 27 D1, 28 D0

## DAC715U
designator IC?, comment 16-Bit DAC with 16-Bit Bus Interface
MPN: DAC715U; MF: TEXAS INSTRUMENT CONNECTORS; OC_FARNELL: 1509882; OC_NEWARK: 74C9141
footprint SO28-3
pins: 1 DCOM (power), 2 ACOM (power), 3 OUT (out), 4 OA, 5 REF (out), 6 GA, 7 +VCC (power), 8 -VCC (power), 9 !CLR, 10 !WR, 11 A1, 12 A0, 13 D15, 14 D14, 15 D13, 16 D12, 17 D11, 18 D10, 19 D9, 20 D8, 21 D7, 22 D6, 23 D5, 24 D4, 25 D3, 26 D2, 27 D1, 28 D0

## DAC725P
designator IC?, comment Dual 16-Bit DAC
MPN: DAC725JP; MF: TEXAS INSTRUMENT CONNECTORS; OC_FARNELL: unknown; OC_NEWARK: 35C0448
footprint DIL28
pins: 1 !CLR, 2 VDD (power), 3 !A2, 4 !A0, 5 !A1, 6 D7, 7 D6, 8 D5, 9 D4, 10 D3, 11 D2, 12 D1, 13 D0, 14 DCOM (power), 15 OUTB (out), 16 ACOMB (power), 17 SJB, 18 GAB, 19 !WRB, 20 !CSB, 21 +VCC (power), 22 -VCC (power), 23 !CSA, 24 !WRA, 25 OUTA (out), 26 ACOMA (power), 27 SJA, 28 GAA

## DAC813P
designator IC?, comment Microprocessor-Compatible 12-Bit DAC
MPN: DAC813JP; OC_FARNELL: 1295977; OC_NEWARK: 61M5756
footprint DIL28-3
pins: 1 +VL (power), 2 RANGE, 3 RANGE@1, 4 BPO, 5 ACOM (power), 6 REFOUT (out), 7 REFIN, 8 +VCC (power), 9 OUT (out), 10 -VCC (power), 11 !WR, 12 !LDAC, 13 !RESET, 14 !LMSB, 15 !LLSB, 16 DCOM (power), 17 D0, 18 D1, 19 D2, 20 D3, 21 D4, 22 D5, 23 D6, 24 D7, 25 D8, 26 D9, 27 D10, 28 D11

## DAC813U
designator IC?, comment Microprocessor-Compatible 12-Bit DAC
MPN: DAC813AU; MF: TEXAS INSTRUMENTS; OC_FARNELL: 1509910; OC_NEWARK: 74C9290
footprint SO28-3
pins: 1 +VL (power), 2 RANGE, 3 RANGE@1, 4 BPO, 5 ACOM (power), 6 REFOUT (out), 7 REFIN, 8 +VCC (power), 9 OUT (out), 10 -VCC (power), 11 !WR, 12 !LDAC, 13 !RESET, 14 !LMSB, 15 !LLSB, 16 DCOM (power), 17 D0, 18 D1, 19 D2, 20 D3, 21 D4, 22 D5, 23 D6, 24 D7, 25 D8, 26 D9, 27 D10, 28 D11

## DAC4813P
designator IC?, comment Quad 12-Bit DAC   12-bit port Interface
OC_FARNELL: unknown; OC_NEWARK: unknown
footprint DIL28
pins: 1 DB11, 2 DB10, 3 DB9, 4 DB8, 5 DB7, 6 DB6, 7 DB5, 8 DB4, 9 DB3, 10 DB2, 11 DB1, 12 DB0, 13 !RESET, 14 !WR, 15 EN1, 16 EN2, 17 EN3, 18 EN4, 19 !LDAC, 20 DCOM (power), 21 -VCC (power), 22 ACOM (power), 23 +VCC (power), 24 OUT4 (out), 25 OUT3 (out), 26 OUT2 (out), 27 OUT1 (out), 28 REFOUT (out)

## DAC4814P
designator IC?, comment Quad 12-Bit DAC   Serial Interface
OC_FARNELL: unknown; OC_NEWARK: unknown
footprint DIL28
pins: 1 OUTB (out), 2 OUTA (out), 3 INVIN, 4 REFOUT (out), 5 BPOB, 6 BPOA, 7 -VS (power), 8 BPOD, 9 BPOC, 10 REFIN, 11 INVOUT (out), 12 AGND (power), 13 OUTD (out), 14 OUTC (out), 15 +VS (power), 16 NC, 17 DGND (power), 18 DATAOUT (out), 19 !CLK, 20 !LATCHD, 21 !LATCHC, 22 DATAIN, 23 !CS, 24 !CLR, 25 MODE, 26 !LATCHB, 27 !LATCHA, 28 +VL (power)

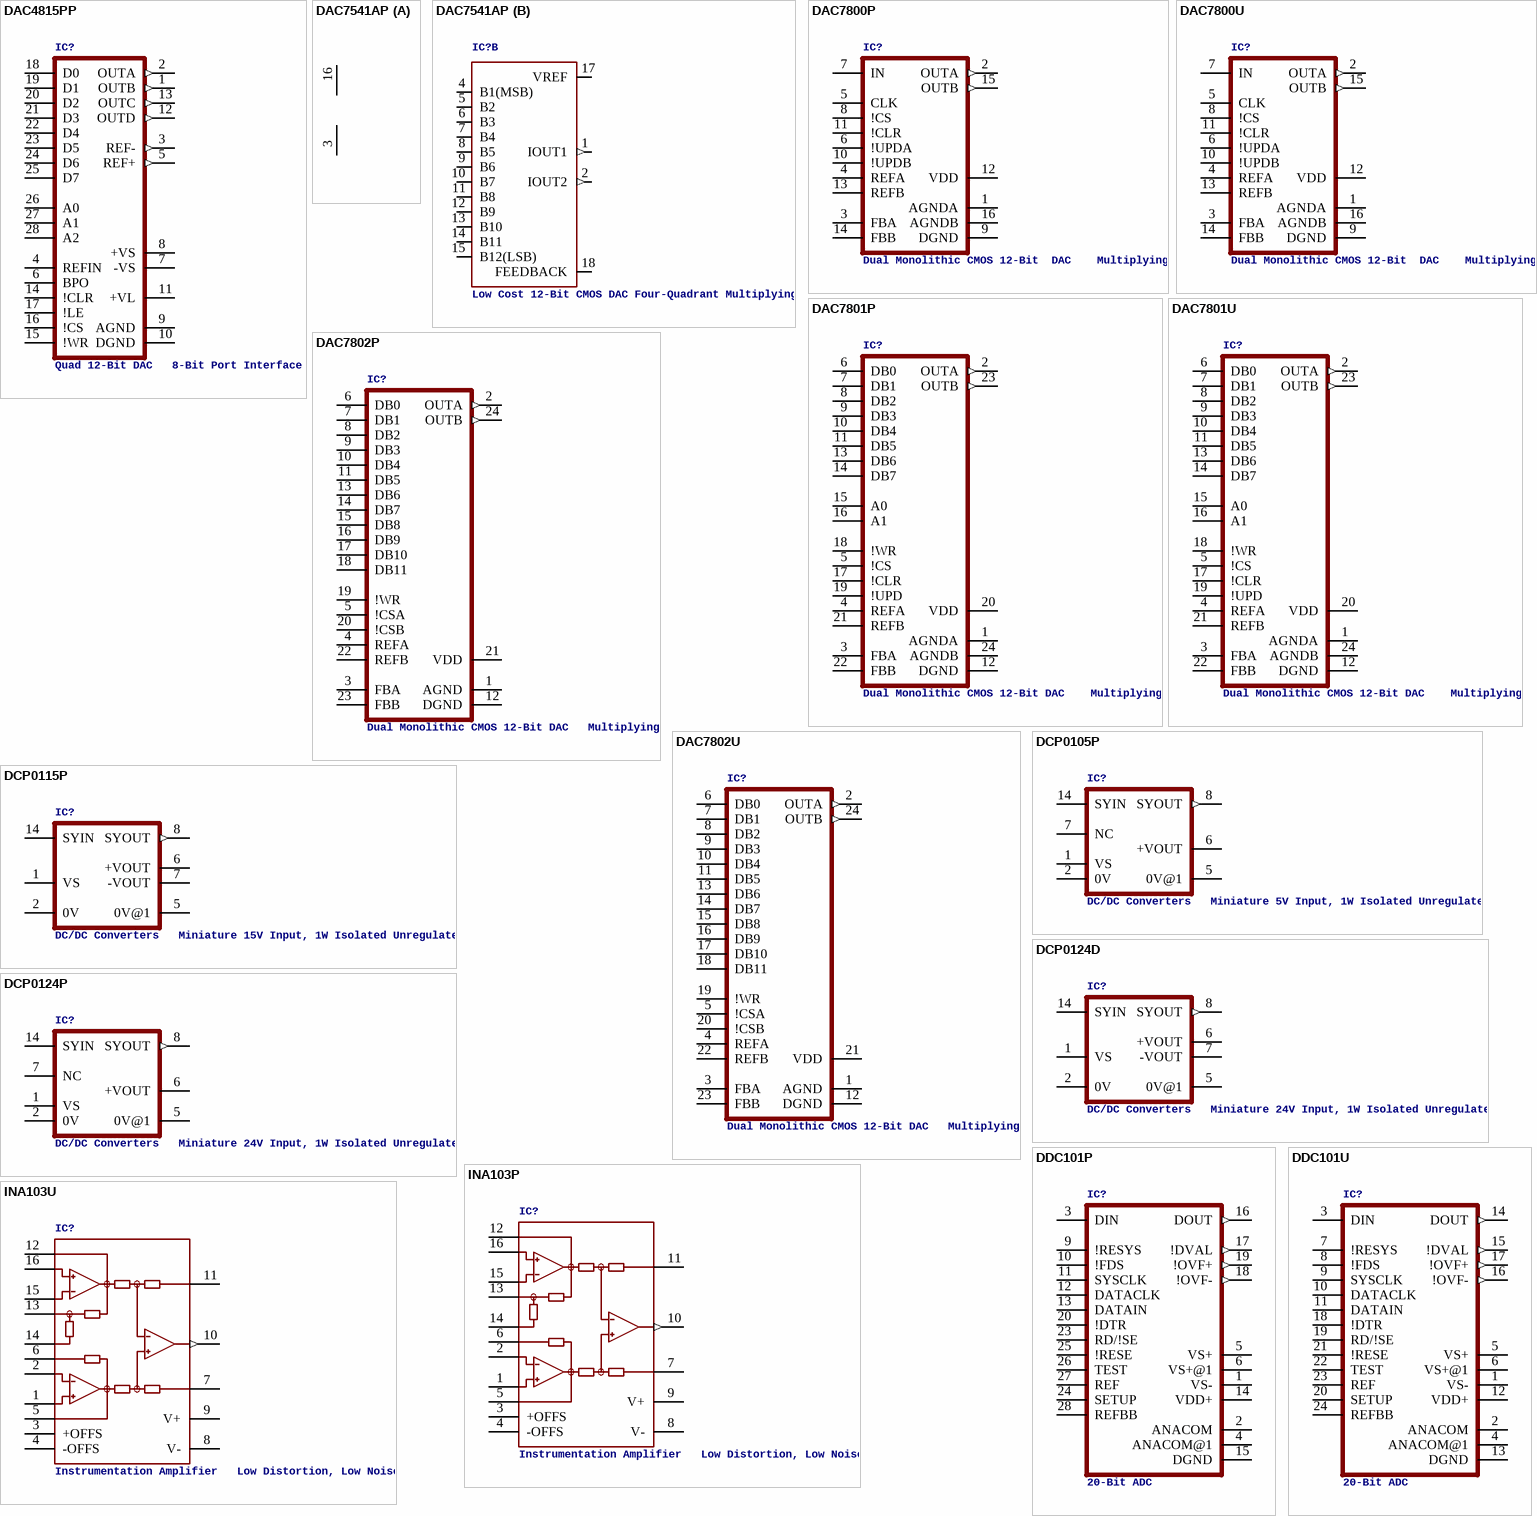
[diagram p7: symbols DAC4815PP to INA103U]

## DAC4815PP
designator IC?, comment Quad 12-Bit DAC   8-Bit Port Interface
OC_FARNELL: unknown; OC_NEWARK: unknown
footprint DIL28
pins: 1 OUTB (out), 2 OUTA (out), 3 REF- (out), 4 REFIN, 5 REF+ (out), 6 BPO, 7 -VS (power), 8 +VS (power), 9 AGND (power), 10 DGND (power), 11 +VL (power), 12 OUTD (out), 13 OUTC (out), 14 !CLR, 15 !WR, 16 !CS, 17 !LE, 18 D0, 19 D1, 20 D2, 21 D3, 22 D4, 23 D5, 24 D6, 25 D7, 26 A0, 27 A1, 28 A2

## DAC7541AP
designator IC?, comment Low Cost 12-Bit CMOS DAC Four-Quadrant Multiplying
MPN: DAC7541AJP; MF: TEXAS INSTRUMENTS; OC_FARNELL: 1212269; OC_NEWARK: 96K4483
footprint DIL18
part A pins: 3 GND (power), 16 VCC (power)
part B pins: 1 IOUT1 (out), 2 IOUT2 (out), 4 B1(MSB), 5 B2, 6 B3, 7 B4, 8 B5, 9 B6, 10 B7, 11 B8, 12 B9, 13 B10, 14 B11, 15 B12(LSB), 17 VREF (power), 18 FEEDBACK

## DAC7800P
designator IC?, comment Dual Monolithic CMOS 12-Bit  DAC    Multiplying
MPN: DAC7800LPG4; OC_FARNELL: 1509905; OC_NEWARK: 99K1851
footprint DIL16
pins: 1 AGNDA (power), 2 OUTA (out), 3 FBA, 4 REFA, 5 CLK, 6 !UPDA, 7 IN, 8 !CS, 9 DGND (power), 10 !UPDB, 11 !CLR, 12 VDD (power), 13 REFB, 14 FBB, 15 OUTB (out), 16 AGNDB (power)

## DAC7800U
designator IC?, comment Dual Monolithic CMOS 12-Bit  DAC    Multiplying
MPN: DAC7800KU; OC_FARNELL: 1460233; OC_NEWARK: 61M5746
footprint SO16-1
pins: 1 AGNDA (power), 2 OUTA (out), 3 FBA, 4 REFA, 5 CLK, 6 !UPDA, 7 IN, 8 !CS, 9 DGND (power), 10 !UPDB, 11 !CLR, 12 VDD (power), 13 REFB, 14 FBB, 15 OUTB (out), 16 AGNDB (power)

## DAC7801P
designator IC?, comment Dual Monolithic CMOS 12-Bit DAC    Multiplying
MPN: DAC7801KP; MF: TEXAS INSTRUMENT CONNECTORS; OC_FARNELL: 1460235; OC_NEWARK: 14M8160
footprint DIL24-3
pins: 1 AGNDA (power), 2 OUTA (out), 3 FBA, 4 REFA, 5 !CS, 6 DB0, 7 DB1, 8 DB2, 9 DB3, 10 DB4, 11 DB5, 12 DGND (power), 13 DB6, 14 DB7, 15 A0, 16 A1, 17 !CLR, 18 !WR, 19 !UPD, 20 VDD (power), 21 REFB, 22 FBB, 23 OUTB (out), 24 AGNDB (power)

## DAC7801U
designator IC?, comment Dual Monolithic CMOS 12-Bit DAC    Multiplying
MPN: DAC7801KU; OC_FARNELL: 1460236; OC_NEWARK: 61M5748
footprint SO24L
pins: 1 AGNDA (power), 2 OUTA (out), 3 FBA, 4 REFA, 5 !CS, 6 DB0, 7 DB1, 8 DB2, 9 DB3, 10 DB4, 11 DB5, 12 DGND (power), 13 DB6, 14 DB7, 15 A0, 16 A1, 17 !CLR, 18 !WR, 19 !UPD, 20 VDD (power), 21 REFB, 22 FBB, 23 OUTB (out), 24 AGNDB (power)

## DAC7802P
designator IC?, comment Dual Monolithic CMOS 12-Bit DAC   Multiplying
MPN: DAC7802KP; OC_FARNELL: 1460240; OC_NEWARK: 61M5750
footprint DIL24-3
pins: 1 AGND (power), 2 OUTA (out), 3 FBA, 4 REFA, 5 !CSA, 6 DB0, 7 DB1, 8 DB2, 9 DB3, 10 DB4, 11 DB5, 12 DGND (power), 13 DB6, 14 DB7, 15 DB8, 16 DB9, 17 DB10, 18 DB11, 19 !WR, 20 !CSB, 21 VDD (power), 22 REFB, 23 FBB, 24 OUTB (out)

## DAC7802U
designator IC?, comment Dual Monolithic CMOS 12-Bit DAC   Multiplying
MPN: DAC7802KU; MF: TEXAS INSTRUMENTS; OC_FARNELL: 1295976; OC_NEWARK: 74C9283
footprint SO24L
pins: 1 AGND (power), 2 OUTA (out), 3 FBA, 4 REFA, 5 !CSA, 6 DB0, 7 DB1, 8 DB2, 9 DB3, 10 DB4, 11 DB5, 12 DGND (power), 13 DB6, 14 DB7, 15 DB8, 16 DB9, 17 DB10, 18 DB11, 19 !WR, 20 !CSB, 21 VDD (power), 22 REFB, 23 FBB, 24 OUTB (out)

## DCP0105P
designator IC?, comment DC/DC Converters   Miniature 5V Input, 1W Isolated Unregulated
MPN: DCP010512BP-U; OC_FARNELL: 1461015; OC_NEWARK: 61M5777
footprint DIL14/7
pins: 1 VS (power), 2 0V (power), 5 0V@1 (power), 6 +VOUT (power), 7 NC, 8 SYOUT (out), 14 SYIN

## DCP0115P
designator IC?, comment DC/DC Converters   Miniature 15V Input, 1W Isolated Unregulated
MPN: DCP011512DBP; MF: TEXAS INSTRUMENT CONNECTORS; OC_FARNELL: 1461019; OC_NEWARK: 74K3725
footprint DIL14/7
pins: 1 VS (power), 2 0V (power), 5 0V@1 (power), 6 +VOUT (power), 7 -VOUT, 8 SYOUT (out), 14 SYIN

## DCP0124D
designator IC?, comment DC/DC Converters   Miniature 24V Input, 1W Isolated Unregulated
MPN: DCP012415DBP-U; MF: TEXAS INSTRUMENTS; OC_FARNELL: 1247063; OC_NEWARK: 76K4235
footprint DIL14/7
pins: 1 VS (power), 2 0V (power), 5 0V@1 (power), 6 +VOUT (power), 7 -VOUT, 8 SYOUT (out), 14 SYIN